# Altium schematic symbol library dungvh03-CERN_Logic.SchLib: 486 symbols (part 12 of 54)
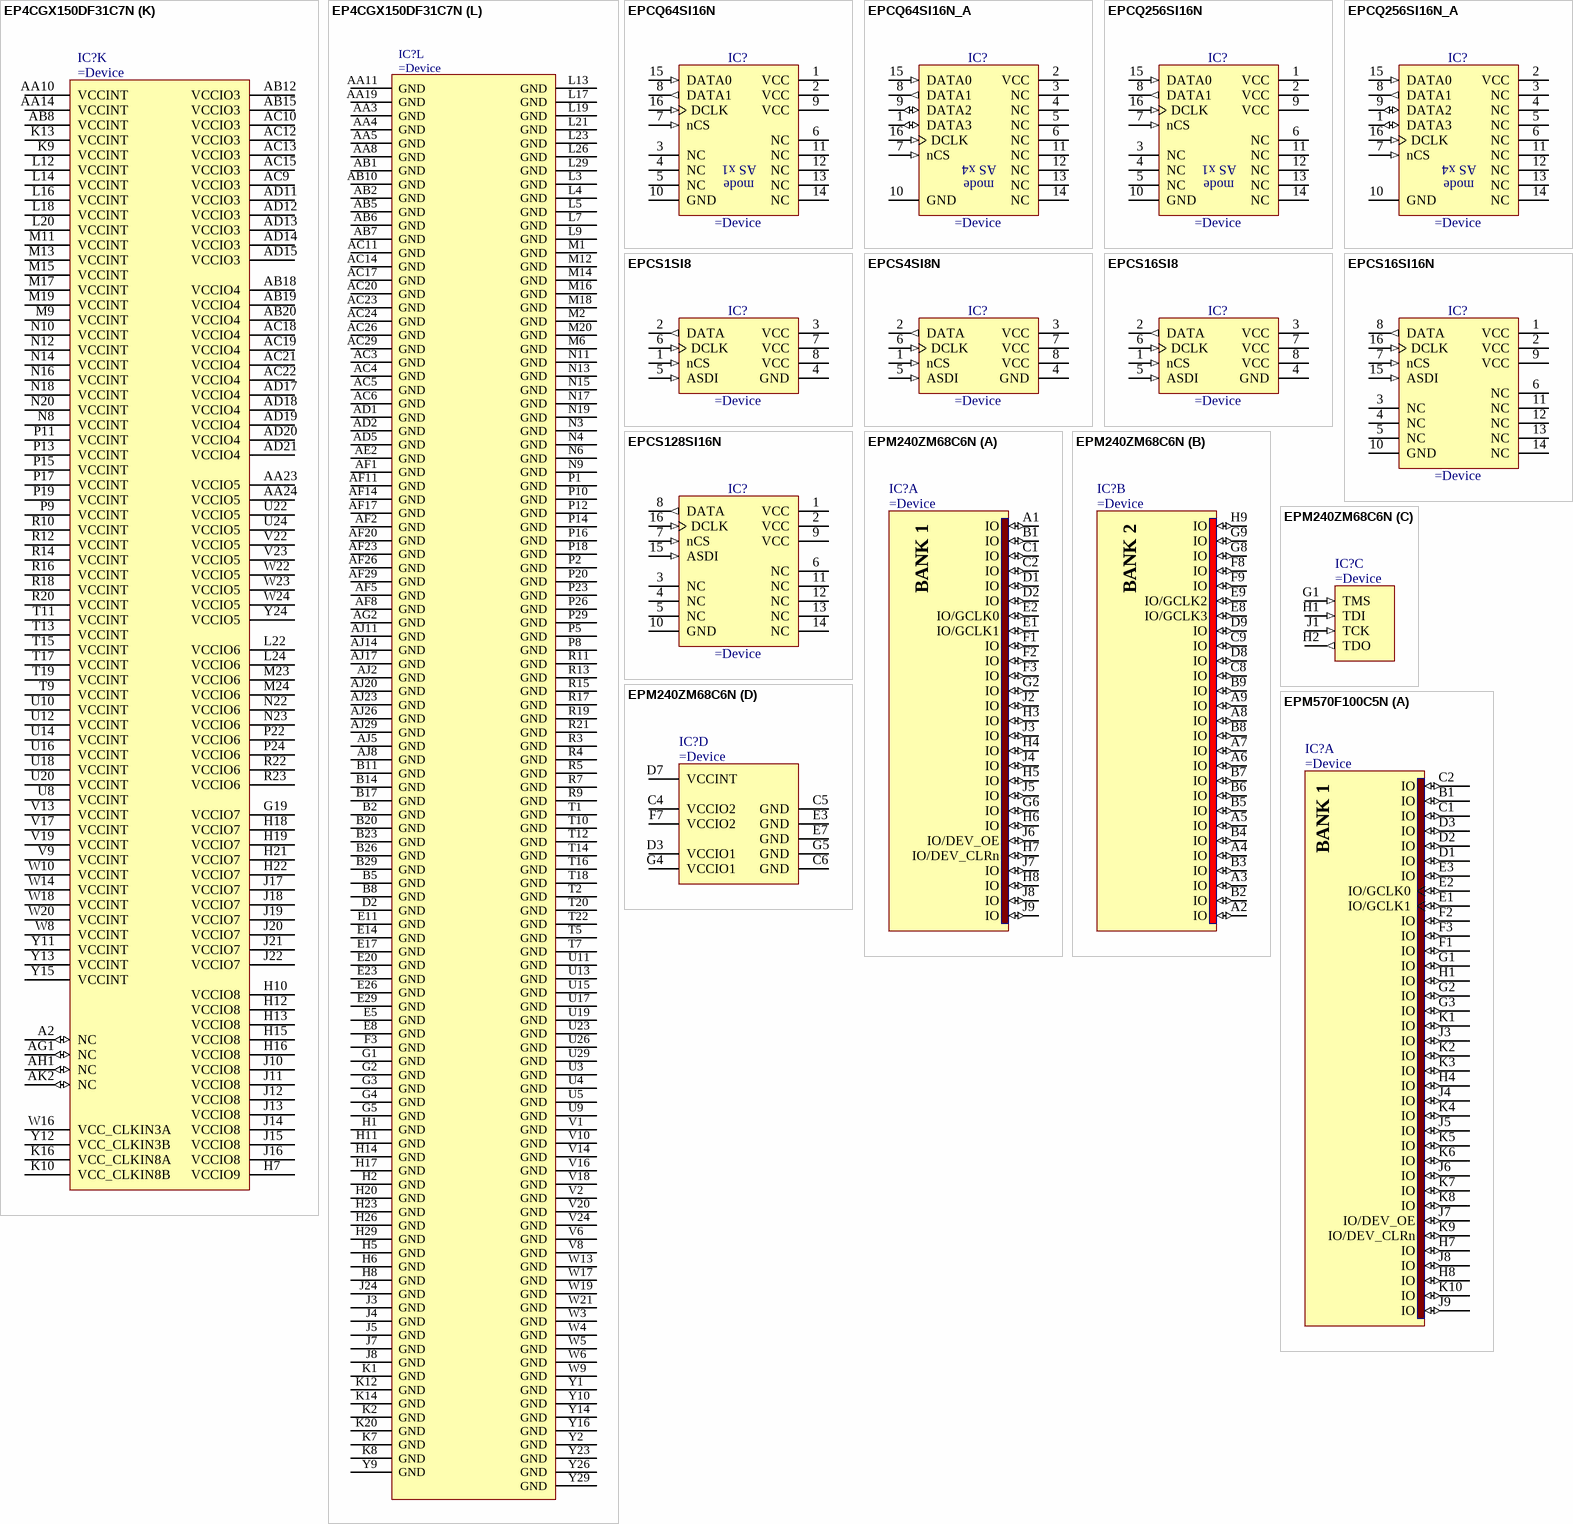
[diagram p272: symbols EP4CGX150DF31C7N to EPM570F100C5N]

## EP4CGX150DF31C7N
designator IC?
Cyclone IV GX Family FPGA, 475 I/O Pins, 8 Transceiver, 896-Pin FBGA, Speed Grade 7, Commercial Grade, Pb-Free
part A pins: AA12 IO/DIFFIO_B20P (io), AA13 IO/DIFFIO_B23P (io), AA15 IO/DIFFIO_B30P/DQ5B (io), AA16 IO/DIFFIO_B25P (io), AB11 IO/DIFFIO_B20N (io), AB13 IO/DIFFIO_B23N/DM5B/BWS#5B (io), AB14 IO/DIFFIO_B30N (io), AB16 IO/DIFFIO_B25N/DQ5B (io), AD6 IO/DIFFIO_B1P/CRC_ERROR (io), AD9 IO/DIFFIO_B7P/DQS1B/CQ1B#,DPCLK0 (io), AD10 IO/DIFFIO_B7N (io), AE3 IO/DIFFIO_B5P/DM1B (io), AE4 IO/DIFFIO_B2P/DATA5 (io), AE5 IO/DIFFIO_B2N/DATA6 (io), AE6 IO/PLL1_CLKOUTP (io), AE7 IO/DIFFIO_B1N/NCEO (io), AE9 IO/PLL6_CLKOUTP (io), AE10 IO/DIFFIO_B3P/DATA7 (io), AE12 IO/DIFFIO_B14P/DQ3B (io), AE13 IO/DIFFIO_B16P/DQ3B (io), AE14 IO/DIFFIO_B31P/DQ5B (io), AE15 IO/DIFFIO_B31N (io), AF3 IO/DIFFIO_B5N/DQ1B (io), AF4 IO/DIFFIO_B4P (io), AF6 IO/PLL1_CLKOUTN (io), AF7 IO/PLL5_CLKOUTP (io), AF9 IO/PLL6_CLKOUTN (io), AF10 IO/DIFFIO_B3N (io), AF12 IO/DIFFIO_B14N (io), AF13 IO/DIFFIO_B16N (io), AF15 IO/DIFFIO_B32P/DQS5B/CQ5B#,DPCLK2 (io), AG3 IO/DIFFIO_B6P (io), AG4 IO/DIFFIO_B4N (io), AG5 IO/DIFFIO_B10P/DQ1B (io), AG6 IO/PLL5_CLKOUTN (io), AG7 IO/DIFFIO_B24P (io), AG8 IO/DIFFIO_B22P (io), AG9 IO/DIFFIO_B15P/DQ3B (io), AG10 IO/DIFFIO_B17P/DQ3B (io), AG12 IO/DIFFIO_B19P (io), AG13 IO/DIFFIO_B21P/DQ3B (io), AG14 IO/DIFFIO_B26P (io), AG15 IO/DIFFIO_B32N (io), AH2 IO/DIFFIO_B8P/DQ1B (io), AH3 IO/DIFFIO_B6N (io), AH4 IO/DIFFIO_B9P (io), AH5 IO/DIFFIO_B10N (io), AH6 IO/DIFFIO_B12P/DQ1B (io), AH7 IO/DIFFIO_B24N (io), AH8 IO/DIFFIO_B22N/DQ3B (io), AH9 IO/DIFFIO_B15N (io), AH10 IO/DIFFIO_B17N (io), AH11 IO/DIFFIO_B18P/DQ3B (io), AH12 IO/DIFFIO_B19N/DQ3B (io), AH13 IO/DIFFIO_B21N/DQS3B/CQ3B#,DPCLK1 (io), AH14 IO/DIFFIO_B26N (io), AH15 IO/DIFFIO_B35P/DQ5B (io), AH16 IO/DIFFIO_B35N/DQ5B (io), AJ3 IO/DIFFIO_B8N/DQ1B (io), AJ4 IO/DIFFIO_B9N/DQ1B (io), AJ6 IO/DIFFIO_B12N/DM3B/BWS#3B (io), AJ7 IO/DIFFIO_B27P/DQ5B (io), AJ9 IO/DIFFIO_B28P (io), AJ10 IO/DIFFIO_B18N/DQ3B (io), AJ12 IO/DIFFIO_B34P (io), AJ13 IO/DIFFIO_B36P (io), AK3 IO/DIFFIO_B11P (io), AK4 IO/DIFFIO_B11N/DQ1B (io), AK5 IO/DIFFIO_B13P/DQ1B (io), AK6 IO/DIFFIO_B13N (io), AK7 IO/DIFFIO_B27N (io), AK8 IO/DIFFIO_B28N/DQ5B (io), AK9 IO/DIFFIO_B29P (io), AK10 IO/DIFFIO_B29N (io), AK11 IO/DIFFIO_B33P/DQ5B (io), AK12 IO/DIFFIO_B33N (io), AK13 IO/DIFFIO_B34N (io), AK14 IO/DIFFIO_B36N/DQ5B (io)
part B pins: AA17 IO/DIFFIO_B37N/DQS4B/CQ5B,DPCLK3 (io), AA18 IO/DIFFIO_B49N (io), AA20 IO/DIFFIO_B54N/DQ2B (io), AA21 IO/DIFFIO_B69P/DQ0B (io), AB22 IO/DIFFIO_B69N/DQS0B/CQ1B,DPCLK5 (io), AD16 IO/DIFFIO_B40P (io), AD22 IO/DIFFIO_B58P/DQS2B/CQ3B,DPCLK4 (io), AD23 IO/DIFFIO_B71P (io), AD24 IO/RUP2/DQ0B (io), AE16 IO/DIFFIO_B40N (io), AE17 IO/DIFFIO_B41P (io), AE18 IO/DIFFIO_B46P/DQ4B (io), AE19 IO/DIFFIO_B46N/DM2B (io), AE20 IO/DIFFIO_B55P (io), AE21 IO/DIFFIO_B55N/DQ2B (io), AE22 IO/DIFFIO_B58N (io), AE23 IO/DIFFIO_B71N (io), AE24 IO/RDN2/DQ0B (io), AF16 IO/DIFFIO_B38P (io), AF18 IO/DIFFIO_B41N (io), AF19 IO/DIFFIO_B48P (io), AF21 IO/DIFFIO_B57P (io), AF22 IO/DIFFIO_B57N (io), AF24 IO/PLL3_CLKOUTP (io), AF25 IO/PLL3_CLKOUTN (io), AG16 IO/DIFFIO_B38N (io), AG17 IO/DIFFIO_B44P (io), AG18 IO/DIFFIO_B47P (io), AG19 IO/DIFFIO_B48N (io), AG20 IO/DIFFIO_B52P (io), AG22 IO/DIFFIO_B56P (io), AG23 IO/DIFFIO_B61P/DQ2B (io), AG24 IO/DIFFIO_B65P (io), AG25 IO/DQ0B (io), AG26 IO/DIFFIO_B68P (io), AG27 IO/DIFFIO_B70P (io), AG28 IO/DIFFIO_B72P/DQ0B (io), AH17 IO/DIFFIO_B44N (io), AH18 IO/DIFFIO_B43P/DQ4B (io), AH19 IO/DIFFIO_B47N/DQ4B (io), AH20 IO/DIFFIO_B52N (io), AH21 IO/DIFFIO_B53P (io), AH22 IO/DIFFIO_B56N (io), AH23 IO/DIFFIO_B61N (io), AH24 IO/DIFFIO_B65N (io), AH25 IO/DIFFIO_B63P/DQ2B (io), AH26 IO/DIFFIO_B68N (io), AH27 IO/DIFFIO_B70N/DQ0B (io), AH28 IO/DIFFIO_B72N (io), AJ15 IO/DIFFIO_B39P/DQ4B (io), AJ18 IO/DIFFIO_B43N/DQ4B (io), AJ19 IO/DIFFIO_B45P (io), AJ21 IO/DIFFIO_B53N (io), AJ22 IO/DIFFIO_B51P (io), AJ24 IO/DIFFIO_B60P/DQ2B (io), AJ25 IO/DIFFIO_B63N (io), AJ27 IO/DIFFIO_B64P/DM0B (io), AJ28 IO/DIFFIO_B66P (io), AK15 IO/DIFFIO_B39N/DQ4B (io), AK17 IO/DIFFIO_B42P/DQ4B (io), AK18 IO/DIFFIO_B42N/DQ4B (io), AK19 IO/DIFFIO_B45N (io), AK20 IO/DIFFIO_B50P (io), AK21 IO/DIFFIO_B50N (io), AK22 IO/DIFFIO_B51N (io), AK23 IO/DIFFIO_B59P/DQ2B (io), AK24 IO/DIFFIO_B59N (io), AK25 IO/DIFFIO_B60N (io), AK26 IO/DIFFIO_B62P/DQ2B (io), AK27 IO/DIFFIO_B62N (io), AK28 IO/DIFFIO_B64N (io), AK29 IO/DIFFIO_B66N (io), Y17 IO/DIFFIO_B37P/DM4B (io), Y18 IO/DIFFIO_B49P (io), Y19 IO/DIFFIO_B54P/DQ2B (io), Y20 IO/DIFFIO_B67P/DQ0B (io), Y21 IO/DIFFIO_B67N/DQ0B (io)
part C pins: AA22 IO/DIFFIO_R50P/DQS3R/CQ3R#,DPCLK7 (io), AA25 IO/DIFFIO_R60N/DQ5R (io), AA27 IO/DIFFIO_R56P/DQ5R (io), AA28 IO/DIFFIO_R45P (io), AA29 IO/DIFFIO_R44N/DM1R (io), AA30 IO/DIFFIO_R43P (io), AB25 IO/DIFFIO_R60P/DQ5R (io), AB26 IO/DIFFIO_R61N/DM5R/BWS#5R (io), AB27 IO/DIFFIO_R48P (io), AB28 IO/DIFFIO_R48N/DQ3R (io), AB29 IO/DIFFIO_R44P (io), AB30 IO/DIFFIO_R46N/DQ3R (io), AC25 IO/DIFFIO_R61P/DQS5R/CQ5R#,DPCLK6 (io), AC27 IO/DIFFIO_R49P (io), AC28 IO/DIFFIO_R49N/DQ3R (io), AC30 IO/DIFFIO_R46P (io), AD25 IO/RUP3 (io), AD26 IO/RDN3 (io), AD27 IO/DIFFIO_R51P/DQ3R (io), AD28 IO/DIFFIO_R51N (io), AD29 IO/DIFFIO_R47P (io), AD30 IO/DIFFIO_R47N/DQ3R (io), AE25 IO/DIFFIO_R59P (io), AE26 IO/DIFFIO_R59N/DQ5R (io), AE27 IO/DIFFIO_R53P/DQ3R (io), AE28 IO/DIFFIO_R53N/DQ3R (io), AE29 IO/DIFFIO_R52P/DQ3R (io), AE30 IO/DIFFIO_R52N (io), AF27 IO/DIFFIO_R55P/DEV_CLRN (io), AF28 IO/DIFFIO_R55N/DEV_OE (io), AF30 IO/DIFFIO_R54N/DQ5R (io), AG29 IO/DIFFIO_R57N/DQ5R (io), AG30 IO/DIFFIO_R54P/DM3R/BWS#3R (io), AH29 IO/DIFFIO_R57P/DQ5R (io), AH30 IO/DIFFIO_R58N (io), AJ30 IO/DIFFIO_R58P (io), T21 IO/DIFFIO_R42N/DQ1R (io), T23 IO/DIFFIO_R34P/DQ1R (io), T24 IO/DIFFIO_R34N/DQ1R (io), T25 IO/DIFFIO_R40N (io), T26 IO/DIFFIO_R33P (io), T27 IO/DIFFIO_R33N (io), U21 IO/DIFFIO_R42P (io), U25 IO/DIFFIO_R40P/DQ1R (io), U27 IO/DIFFIO_R35P (io), U28 IO/DIFFIO_R35N (io), V25 IO/DIFFIO_R41P (io), V26 IO/DIFFIO_R41N (io), V27 IO/DIFFIO_R36P/DQ1R (io), V28 IO/DIFFIO_R36N/DQ1R (io), W25 IO/DIFFIO_R39P/DQ1R (io), W26 IO/DIFFIO_R39N (io), W27 IO/DIFFIO_R38P/DQS1R/CQ1R#,DPCLK8 (io), W28 IO/DIFFIO_R38N (io), W29 IO/DIFFIO_R37P (io), W30 IO/DIFFIO_R37N (io), Y22 IO/DIFFIO_R50N/DQ3R (io), Y25 IO/DQ5R (io), Y27 IO/DIFFIO_R56N/DQ5R (io), Y28 IO/DIFFIO_R45N (io), Y30 IO/DIFFIO_R43N/DQ1R (io)
part D pins: C29 IO/DIFFIO_R7P/DQ4R (io), C30 IO/DIFFIO_R7N/DM4R (io), D29 IO/DIFFIO_R9P/DQ2R (io), D30 IO/DIFFIO_R9N (io), E27 IO/DIFFIO_R3P/DQ4R (io), E28 IO/DIFFIO_R3N/DQ4R (io), E30 IO/DIFFIO_R13N/DQ2R (io), F26 IO/DIFFIO_R1P/DQ4R (io), F27 IO/DIFFIO_R1N/DQ4R (io), F28 IO/DIFFIO_R4P (io), F29 IO/DIFFIO_R4N (io), F30 IO/DIFFIO_R13P/DQ2R (io), G26 IO/DIFFIO_R2P/DQS4R/CQ5R,DPCLK11 (io), G27 IO/DIFFIO_R2N (io), G28 IO/DIFFIO_R12P (io), G29 IO/DIFFIO_R12N (io), G30 IO/DIFFIO_R19N (io), H25 IO/DIFFIO_R6N/DQ4R (io), H27 IO/DIFFIO_R5N/DQ4R (io), H28 IO/DIFFIO_R8N (io), H30 IO/DIFFIO_R19P/DQ2R (io), J25 IO/DIFFIO_R6P (io), J26 IO/DIFFIO_R10N/DQS2R/CQ3R,DPCLK10 (io), J27 IO/DIFFIO_R5P/DQ4R (io), J28 IO/DIFFIO_R8P (io), J29 IO/DIFFIO_R18P (io), J30 IO/DIFFIO_R18N (io), K25 IO/DIFFIO_R10P/DQ2R (io), K26 IO/DIFFIO_R11P/DQ2R (io), K27 IO/DIFFIO_R11N/DQ2R (io), K28 IO/DIFFIO_R17P (io), K29 IO/DIFFIO_R17N (io), K30 IO/DIFFIO_R20N (io), L27 IO/DIFFIO_R15P/DQ2R (io), L28 IO/DIFFIO_R15N (io), L30 IO/DIFFIO_R20P (io), M21 IO/DIFFIO_R14P (io), M22 IO/DIFFIO_R14N (io), M25 IO/DIFFIO_R22N (io), M26 IO/DIFFIO_R24N (io), M27 IO/DIFFIO_R21P (io), M28 IO/DIFFIO_R21N/DQ0R (io), M29 IO/DIFFIO_R23P/DQ0R (io), M30 IO/DIFFIO_R23N (io), N21 IO/DIFFIO_R16N (io), N24 IO/DIFFIO_R22P (io), N25 IO/DIFFIO_R24P/DQ0R (io), N27 IO/DIFFIO_R25P/DQ0R (io), N28 IO/DIFFIO_R25N (io), N29 IO/DIFFIO_R27P (io), N30 IO/DIFFIO_R27N (io), P21 IO/DIFFIO_R16P/DM2R (io), P25 IO/DIFFIO_R26N (io), P27 IO/DIFFIO_R28P (io), P28 IO/DIFFIO_R28N (io), P30 IO/DIFFIO_R29N/DQS0R/CQ1R,DPCLK9 (io), R24 IO/DIFFIO_R26P/DQ0R (io), R25 IO/DIFFIO_R31P (io), R26 IO/DIFFIO_R31N (io), R27 IO/DIFFIO_R30P/DQ0R (io), R28 IO/DIFFIO_R30N/DQ0R (io), R29 IO/DIFFIO_R32N/DM0R (io), R30 IO/DIFFIO_R29P (io), T28 IO/DIFFIO_R32P/DQ0R (io)
part E pins: A16 IO/DIFFIO_T36N (io), A17 IO/DIFFIO_T39N/DQ4T (io), A18 IO/DIFFIO_T39P (io), A19 IO/DIFFIO_T42N (io), A20 IO/DIFFIO_T44N (io), A21 IO/DIFFIO_T48N (io), A22 IO/DIFFIO_T51N (io), A23 IO/DIFFIO_T51P/DQ4T (io), A24 IO/DIFFIO_T54N/DM2T (io), A25 IO/DIFFIO_T59N (io), A26 IO/DIFFIO_T59P/DQ2T (io), A27 IO/DIFFIO_T62N (io), A28 IO/DIFFIO_T63N (io), A29 IO/DIFFIO_T65N/DQS0T/CQ1T,DPCLK12 (io), B16 IO/DIFFIO_T36P/DM4T (io), B18 IO/DIFFIO_T42P (io), B19 IO/DIFFIO_T44P (io), B21 IO/DIFFIO_T48P (io), B22 IO/DIFFIO_T49N (io), B24 IO/DIFFIO_T53N (io), B25 IO/DIFFIO_T54P (io), B27 IO/DIFFIO_T62P/DQ2T (io), B28 IO/DIFFIO_T63P/DQ2T (io), B30 IO/DIFFIO_T65P/DQ0T (io), C17 IO/DIFFIO_T38N (io), C18 IO/DIFFIO_T41N/DQ4T (io), C19 IO/DIFFIO_T43N (io), C20 IO/DIFFIO_T46N (io), C22 IO/DIFFIO_T49P/DQ4T (io), C23 IO/DIFFIO_T52N (io), C24 IO/DIFFIO_T53P (io), C25 IO/DIFFIO_T58N (io), C26 IO/DIFFIO_T60N (io), C27 IO/PLL4_CLKOUTN (io), C28 IO/DIFFIO_T69N/DQ0T (io), D17 IO/DIFFIO_T38P (io), D18 IO/DIFFIO_T41P (io), D19 IO/DIFFIO_T43P/DQ4T (io), D20 IO/DIFFIO_T46P (io), D21 IO/DIFFIO_T56N/DQ2T (io), D22 IO/DIFFIO_T57N/DQ2T (io), D23 IO/DIFFIO_T52P (io), D24 IO/DIFFIO_T61N (io), D25 IO/DIFFIO_T58P (io), D26 IO/DIFFIO_T60P/DQ2T (io), D27 IO/PLL4_CLKOUTP (io), D28 IO/DIFFIO_T69P/DQ0T (io), E18 IO/DIFFIO_T45N/DQ4T (io), E19 IO/DIFFIO_T45P/DQ4T (io), E21 IO/DIFFIO_T56P (io), E22 IO/DIFFIO_T57P (io), E24 IO/DIFFIO_T61P/DQ2T (io), E25 IO (io), F17 IO/DIFFIO_T47N (io), F18 IO/DIFFIO_T40N (io), F19 IO/DIFFIO_T55N/DQ2T (io), F20 IO/DIFFIO_T50N (io), F21 IO/DIFFIO_T50P (io), F22 IO/DIFFIO_T64N/DQ0T (io), F23 IO/DIFFIO_T66N/DQ0T (io), F24 IO (io), F25 IO/RDN4 (io), G17 IO/DIFFIO_T47P/DQS2T/CQ3T,DPCLK13 (io), G18 IO/DIFFIO_T40P (io), G20 IO/DIFFIO_T55P (io), G22 IO/DIFFIO_T64P/DM0T (io), G23 IO/DIFFIO_T66P/DQ0T (io), G24 IO/DIFFIO_T68N/DQ0T (io), G25 IO/RUP4 (io), H24 IO/DIFFIO_T68P/DQ0T (io), K17 IO (io), K18 IO/DIFFIO_T37N/DQ4T (io), K19 IO/DIFFIO_T37P/DQS4T/CQ5T,DPCLK14 (io), K21 IO/DIFFIO_T67P (io), K22 IO/DIFFIO_T67N (io)
part F pins: A5 IO/DIFFIO_T16N/DM3T/BWS#3T (io), A6 IO/DIFFIO_T16P (io), A7 IO/DIFFIO_T18N (io), A8 IO/DIFFIO_T20N/DM5T (io), A9 IO/DIFFIO_T19N (io), A10 IO/DIFFIO_T27N (io), A11 IO/DIFFIO_T27P (io), A12 IO/DIFFIO_T29N/DQ5T (io), A13 IO/DIFFIO_T32N/DQ5T (io), A14 IO/DIFFIO_T32P/DQ5T (io), B6 IO/DIFFIO_T18P/DQ3T (io), B7 IO/DIFFIO_T20P (io), B9 IO/DIFFIO_T19P/DQ3T (io), B10 IO/DIFFIO_T23N (io), B12 IO/DIFFIO_T29P (io), C2 IO/DIFFIO_T4N/DATA4/DM1T/BWS#1T (io), C3 IO/DIFFIO_T8N/DQ1T (io), C4 IO/DIFFIO_T13N (io), C5 IO/DIFFIO_T12N/DQ3T (io), C6 IO/DIFFIO_T12P (io), C7 IO/DIFFIO_T11N/DQ3T (io), C9 IO/DIFFIO_T6N/DQ1T (io), C10 IO/DIFFIO_T23P (io), C11 IO/DIFFIO_T17N (io), C12 IO/DIFFIO_T21N (io), C13 IO/DIFFIO_T25N (io), C14 IO/DIFFIO_T26N/DQ5T (io), C15 IO/DIFFIO_T28N (io), C16 IO/DIFFIO_T34N/DQS5T/CQ5T#,DPCLK15 (io), D1 IO/DIFFIO_T4P/DATA3 (io), D3 IO/DIFFIO_T8P/DQ1T (io), D4 IO/DIFFIO_T13P/DQ3T (io), D5 IO/DIFFIO_T10N/DQ3T (io), D6 IO/DIFFIO_T11P/DQ3T (io), D7 IO/DIFFIO_T15N/DQS3T/CQ3T#,DPCLK16 (io), D8 IO (io), D9 IO/DIFFIO_T6P/DQ1T (io), D10 IO/DIFFIO_T7N/DQ1T (io), D11 IO/DIFFIO_T17P/DQ3T (io), D12 IO/DIFFIO_T21P (io), D13 IO/DIFFIO_T25P (io), D14 IO/DIFFIO_T26P (io), D15 IO/DIFFIO_T28P/DQ5T (io), D16 IO/DIFFIO_T34P/DQ5T (io), E3 IO/DIFFIO_T3N (io), E4 IO/DIFFIO_T3P (io), E6 IO/DIFFIO_T10P/DQ1T (io), E7 IO/DIFFIO_T15P (io), E9 IO/DIFFIO_T5N (io), E10 IO/DIFFIO_T7P/DQ1T (io), E12 IO/DIFFIO_T14N (io), E13 IO/DIFFIO_T24N (io), E15 IO/DIFFIO_T30N (io), E16 IO/DIFFIO_T31N (io), F4 IO/DIFFIO_T2N (io), F5 IO/DIFFIO_T2P (io), F6 IO/PLL2_CLKOUTN (io), F7 IO/PLL7_CLKOUTN (io), F8 IO/PLL8_CLKOUTN (io), F9 IO/DIFFIO_T5P/DQ1T (io), F10 IO/DIFFIO_T9N/DQ1T (io), F11 IO/DIFFIO_T14P/DQ3T (io), F12 IO/DIFFIO_T22N/DQ5T (io), F13 IO/DIFFIO_T24P/DQ5T (io), F14 IO/DIFFIO_T30P (io), F15 IO/DIFFIO_T31P (io), F16 IO/DIFFIO_T35N (io), G6 IO/PLL2_CLKOUTP (io), G7 IO/PLL7_CLKOUTP (io), G8 IO/PLL8_CLKOUTP (io), G10 IO/DIFFIO_T9P/DQS1T/CQ1T#,DPCLK17 (io), G12 IO/DIFFIO_T22P (io), G13 IO/DIFFIO_T33N (io), G14 IO/DIFFIO_T33P (io), G15 IO/DIFFIO_T35P (io), H9 IO/DIFFIO_T1N/DATA2 (io), J9 IO/DIFFIO_T1P (io)
part G pins: A15 CLKIO8/DIFFCLK_5N (io), AA1 GXB_RX1N (io), AA2 GXB_RX1P (io), AB3 GXB_TX0N (io), AB4 GXB_TX0P (io), AC1 GXB_RX0N (io), AC2 GXB_RX0P (io), AE1 RREF0 (io), AJ16 CLKIO14/DIFFCLK_6P (io), AK16 CLKIO15/DIFFCLK_6N (io), B15 CLKIO9/DIFFCLK_5P (io), H3 GXB_TX7N (io), H4 GXB_TX7P (io), J1 GXB_RX7N (io), J2 GXB_RX7P (io), K3 GXB_TX6N (io), K4 GXB_TX6P (io), K11 REFCLK4N/DIFFCLK_8N (io), K15 CLKIO10/DIFFCLK_4N,REFCLK3N (io), L1 GXB_RX6N (io), L2 GXB_RX6P (io), L10 REFCLK5N/DIFFCLK_9N (io), L11 REFCLK4P/DIFFCLK_8P,CLKIO17 (io), L15 CLKIO11/DIFFCLK_4P,REFCLK3P (io), M3 GXB_TX5N (io), M4 GXB_TX5P (io), M10 REFCLK5P/DIFFCLK_9P,CLKIO19 (io), N1 GXB_RX5N (io), N2 GXB_RX5P (io), P3 GXB_TX4N (io), P4 GXB_TX4P (io), R1 GXB_RX4N (io), R2 GXB_RX4P (io), T3 GXB_TX3N (io), T4 GXB_TX3P (io), T29 CLKIO7/DIFFCLK_3P (io), T30 CLKIO6/DIFFCLK_3N (io), U1 GXB_RX3N (io), U2 GXB_RX3P (io), V3 GXB_TX2N (io), V4 GXB_TX2P (io), V11 REFCLK0P/DIFFCLK_0P,CLKIO20 (io), V12 REFCLK1P/DIFFCLK_1P,CLKIO22 (io), V15 CLKIO12/DIFFCLK_7P,REFCLK2P (io), V29 CLKIO5/DIFFCLK_2P (io), V30 CLKIO4/DIFFCLK_2N (io), W1 GXB_RX2N (io), W2 GXB_RX2P (io), W11 REFCLK0N/DIFFCLK_0N (io), W12 REFCLK1N/DIFFCLK_1N (io), W15 CLKIO13/DIFFCLK_7N,REFCLK2N (io), Y3 GXB_TX1N (io), Y4 GXB_TX1P (io)
part H pins: AA26 VREFB5N2 (io), AB17 VREFB4N2 (io), AB21 VREFB4N0 (io), AC16 VREFB3N0 (io), AE11 VREFB3N2 (io), AG11 VREFB3N1 (io), AG21 VREFB4N1 (io), B13 VREFB8N0 (io), C8 VREFB8N2 (io), C21 VREFB7N1 (io), G11 VREFB8N1 (io), G16 VREFB7N2 (io), G21 VREFB7N0 (io), K24 VREFB6N0 (io), L25 VREFB6N1 (io), N26 VREFB6N2 (io), U30 VREFB5N0 (io), V21 VREFB5N1 (io)
part I pins: A3 DATA0 (io), A4 CLKUSR (io), AB9 CONF_DONE (io), AC7 MSEL2 (io), AC8 MSEL3 (io), AD7 MSEL0 (io), AD8 MSEL1 (io), AE8 INIT_DONE (io), AJ1 nSTATUS (io), B1 nCONFIG (io), B3 DCLK (io), B4 nCSO (io), C1 nCE (io), E1 TMS (io), E2 TDI (io), F1 TDO (io), F2 TCK (io), G9 DATA1,ASDO (io)
part J pins: AA6 VCCL_GXB (power), AA7 VCCA (power), AA9 VCCA (power), AB23 VCCD_PLL (power), AB24 VCCA (power), AD3 VCCA_GXB (power), AD4 VCCL_GXB (power), J6 VCCA (power), J23 VCCD_PLL (power), K5 VCCL_GXB (power), K6 VCCD_PLL (power), K23 VCCA (power), L6 VCCH_GXB (power), L8 VCCA (power), M5 VCCL_GXB (power), M7 VCCA_GXB (power), M8 VCCD_PLL (power), N5 VCCH_GXB (power), N7 VCCL_GXB (power), P6 VCCL_GXB (power), P7 VCCD_PLL (power), R6 VCCA_GXB (power), R8 VCCA (power), T6 VCCL_GXB (power), T8 VCCA (power), U6 VCCH_GXB (power), U7 VCCD_PLL (power), V5 VCCL_GXB (power), V7 VCCA_GXB (power), W7 VCCH_GXB (power), Y5 VCCL_GXB (power), Y6 VCCA_GXB (power), Y7 VCCD_PLL (power), Y8 VCCD_PLL (power)
part K pins: A2 NC (io), AA10 VCCINT (power), AA14 VCCINT (power), AA23 VCCIO5 (power), AA24 VCCIO5 (power), AB8 VCCINT (power), AB12 VCCIO3 (power), AB15 VCCIO3 (power), AB18 VCCIO4 (power), AB19 VCCIO4 (power), AB20 VCCIO4 (power), AC9 VCCIO3 (power), AC10 VCCIO3 (power), AC12 VCCIO3 (power), AC13 VCCIO3 (power), AC15 VCCIO3 (power), AC18 VCCIO4 (power), AC19 VCCIO4 (power), AC21 VCCIO4 (power), AC22 VCCIO4 (power), AD11 VCCIO3 (power), AD12 VCCIO3 (power), AD13 VCCIO3 (power), AD14 VCCIO3 (power), AD15 VCCIO3 (power), AD17 VCCIO4 (power), AD18 VCCIO4 (power), AD19 VCCIO4 (power), AD20 VCCIO4 (power), AD21 VCCIO4 (power), AG1 NC (io), AH1 NC (io), AK2 NC (io), G19 VCCIO7 (power), H7 VCCIO9 (power), H10 VCCIO8 (power), H12 VCCIO8 (power), H13 VCCIO8 (power), H15 VCCIO8 (power), H16 VCCIO8 (power), H18 VCCIO7 (power), H19 VCCIO7 (power), H21 VCCIO7 (power), H22 VCCIO7 (power), J10 VCCIO8 (power), J11 VCCIO8 (power), J12 VCCIO8 (power), J13 VCCIO8 (power), J14 VCCIO8 (power), J15 VCCIO8 (power), J16 VCCIO8 (power), J17 VCCIO7 (power), J18 VCCIO7 (power), J19 VCCIO7 (power), J20 VCCIO7 (power), J21 VCCIO7 (power), J22 VCCIO7 (power), K9 VCCINT (power), K10 VCC_CLKIN8B (power), K13 VCCINT (power), K16 VCC_CLKIN8A (power), L12 VCCINT (power), L14 VCCINT (power), L16 VCCINT (power), L18 VCCINT (power), L20 VCCINT (power), L22 VCCIO6 (power), L24 VCCIO6 (power), M9 VCCINT (power), M11 VCCINT (power), M13 VCCINT (power), M15 VCCINT (power), M17 VCCINT (power), M19 VCCINT (power), M23 VCCIO6 (power), M24 VCCIO6 (power), N8 VCCINT (power), N10 VCCINT (power), N12 VCCINT (power), N14 VCCINT (power), N16 VCCINT (power), N18 VCCINT (power), N20 VCCINT (power), N22 VCCIO6 (power), N23 VCCIO6 (power), P9 VCCINT (power), P11 VCCINT (power), P13 VCCINT (power), P15 VCCINT (power), P17 VCCINT (power), P19 VCCINT (power), P22 VCCIO6 (power), P24 VCCIO6 (power), R10 VCCINT (power), R12 VCCINT (power), R14 VCCINT (power), R16 VCCINT (power), R18 VCCINT (power), R20 VCCINT (power), R22 VCCIO6 (power), R23 VCCIO6 (power), T9 VCCINT (power), T11 VCCINT (power), T13 VCCINT (power), T15 VCCINT (power), T17 VCCINT (power), T19 VCCINT (power), U8 VCCINT (power), U10 VCCINT (power), U12 VCCINT (power), U14 VCCINT (power), U16 VCCINT (power), U18 VCCINT (power), U20 VCCINT (power), U22 VCCIO5 (power), U24 VCCIO5 (power), V9 VCCINT (power), V13 VCCINT (power), V17 VCCINT (power), V19 VCCINT (power), V22 VCCIO5 (power), V23 VCCIO5 (power), W8 VCCINT (power), W10 VCCINT (power), W14 VCCINT (power), W16 VCC_CLKIN3A (power), W18 VCCINT (power), W20 VCCINT (power), W22 VCCIO5 (power), W23 VCCIO5 (power), W24 VCCIO5 (power), Y11 VCCINT (power), Y12 VCC_CLKIN3B (power), Y13 VCCINT (power), Y15 VCCINT (power), Y24 VCCIO5 (power)
part L pins: AA3 GND (power), AA4 GND (power), AA5 GND (power), AA8 GND (power), AA11 GND (power), AA19 GND (power), AB1 GND (power), AB2 GND (power), AB5 GND (power), AB6 GND (power), AB7 GND (power), AB10 GND (power), AC3 GND (power), AC4 GND (power), AC5 GND (power), AC6 GND (power), AC11 GND (power), AC14 GND (power), AC17 GND (power), AC20 GND (power), AC23 GND (power), AC24 GND (power), AC26 GND (power), AC29 GND (power), AD1 GND (power), AD2 GND (power), AD5 GND (power), AE2 GND (power), AF1 GND (power), AF2 GND (power), AF5 GND (power), AF8 GND (power), AF11 GND (power), AF14 GND (power), AF17 GND (power), AF20 GND (power), AF23 GND (power), AF26 GND (power), AF29 GND (power), AG2 GND (power), AJ2 GND (power), AJ5 GND (power), AJ8 GND (power), AJ11 GND (power), AJ14 GND (power), AJ17 GND (power), AJ20 GND (power), AJ23 GND (power), AJ26 GND (power), AJ29 GND (power), B2 GND (power), B5 GND (power), B8 GND (power), B11 GND (power), B14 GND (power), B17 GND (power), B20 GND (power), B23 GND (power), B26 GND (power), B29 GND (power), D2 GND (power), E5 GND (power), E8 GND (power), E11 GND (power), E14 GND (power), E17 GND (power), E20 GND (power), E23 GND (power), E26 GND (power), E29 GND (power), F3 GND (power), G1 GND (power), G2 GND (power), G3 GND (power), G4 GND (power), G5 GND (power), H1 GND (power), H2 GND (power), H5 GND (power), H6 GND (power), H8 GND (power), H11 GND (power), H14 GND (power), H17 GND (power), H20 GND (power), H23 GND (power), H26 GND (power), H29 GND (power), J3 GND (power), J4 GND (power), J5 GND (power), J7 GND (power), J8 GND (power), J24 GND (power), K1 GND (power), K2 GND (power), K7 GND (power), K8 GND (power), K12 GND (power), K14 GND (power), K20 GND (power), L3 GND (power), L4 GND (power), L5 GND (power), L7 GND (power), L9 GND (power), L13 GND (power), L17 GND (power), L19 GND (power), L21 GND (power), L23 GND (power), L26 GND (power), L29 GND (power), M1 GND (power), M2 GND (power), M6 GND (power), M12 GND (power), M14 GND (power), M16 GND (power), M18 GND (power), M20 GND (power), N3 GND (power), N4 GND (power), N6 GND (power), N9 GND (power), N11 GND (power), N13 GND (power), N15 GND (power), N17 GND (power), N19 GND (power), P1 GND (power), P2 GND (power), P5 GND (power), P8 GND (power), P10 GND (power), P12 GND (power), P14 GND (power), P16 GND (power), P18 GND (power), P20 GND (power), P23 GND (power), P26 GND (power), P29 GND (power), R3 GND (power), R4 GND (power), R5 GND (power), R7 GND (power), R9 GND (power), R11 GND (power), R13 GND (power), R15 GND (power), R17 GND (power), R19 GND (power), R21 GND (power), T1 GND (power), T2 GND (power), T5 GND (power), T7 GND (power), T10 GND (power), T12 GND (power), T14 GND (power), T16 GND (power), T18 GND (power), T20 GND (power), T22 GND (power), U3 GND (power), U4 GND (power), U5 GND (power), U9 GND (power), U11 GND (power), U13 GND (power), U15 GND (power), U17 GND (power), U19 GND (power), U23 GND (power), U26 GND (power), U29 GND (power), V1 GND (power), V2 GND (power), V6 GND (power), V8 GND (power), V10 GND (power), V14 GND (power), V16 GND (power), V18 GND (power), V20 GND (power), V24 GND (power), W3 GND (power), W4 GND (power), W5 GND (power), W6 GND (power), W9 GND (power), W13 GND (power), W17 GND (power), W19 GND (power), W21 GND (power), Y1 GND (power), Y2 GND (power), Y9 GND (power), Y10 GND (power), Y14 GND (power), Y16 GND (power), Y23 GND (power), Y26 GND (power), Y29 GND (power)
part A text: BANK 3
part B text: BANK 4
part C text: BANK 5
part D text: BANK 6
part E text: BANK 7
part F text: BANK 8

## EPCQ64SI16N
designator IC?
EPCQ Series, In-system programmable 3.3V Serial or Quad-Serial Configuration Device, 16-Pin SOIC, 64-Megabit, Industrial Grade, Pb-Free
pins: 1 VCC (power) "3.3V supply", 2 VCC (power) "3.3V supply", 3 NC "Can be left floating, or connected to VCC or GND", 4 NC "Can be left floating, or connected to VCC or GND", 5 NC "Can be left floating, or connected to VCC or GND", 6 NC "Can be left floating, or connected to VCC or GND", 7 nCS (in) "Active low, chip select input", 8 DATA1 (out) "Serial data out", 9 VCC (power) "3.3V supply", 10 GND (power) "Ground", 11 NC "Can be left floating, or connected to VCC or GND", 12 NC "Can be left floating, or connected to VCC or GND", 13 NC "Can be left floating, or connected to VCC or GND", 14 NC "Can be left floating, or connected to VCC or GND", 15 DATA0 (in) "AS data in", 16 DCLK (in) "Provides timing of the serial interface"
text: AS x1; mode

## EPCQ64SI16N_A
designator IC?
EPCQ Series, In-system programmable 3.3V Serial or Quad-Serial Configuration Device, 16-Pin SOIC, 64-Megabit, Industrial Grade, Pb-Free
pins: 1 DATA3 (io) "3.3V supply", 2 VCC (power) "3.3V supply", 3 NC "Can be left floating, or connected to VCC or GND", 4 NC "Can be left floating, or connected to VCC or GND", 5 NC "Can be left floating, or connected to VCC or GND", 6 NC "Can be left floating, or connected to VCC or GND", 7 nCS (in) "Active low, chip select input", 8 DATA1 (out) "Serial data out", 9 DATA2 (io) "3.3V supply", 10 GND (power) "Ground", 11 NC "Can be left floating, or connected to VCC or GND", 12 NC "Can be left floating, or connected to VCC or GND", 13 NC "Can be left floating, or connected to VCC or GND", 14 NC "Can be left floating, or connected to VCC or GND", 15 DATA0 (in) "AS data in", 16 DCLK (in) "Provides timing of the serial interface"
text: AS x4; mode

## EPCQ256SI16N
designator IC?
EPCQ Series, In-system programmable 3.3V serial configuration device, 16-Pin SOIC, 256-Megabit, Industrial Grade, Pb-Free
pins: 1 VCC (power) "3.3V supply", 2 VCC (power) "3.3V supply", 3 NC "Can be left floating, or connected to VCC or GND", 4 NC "Can be left floating, or connected to VCC or GND", 5 NC "Can be left floating, or connected to VCC or GND", 6 NC "Can be left floating, or connected to VCC or GND", 7 nCS (in) "Active low, chip select input", 8 DATA1 (out) "Serial data out", 9 VCC (power) "3.3V supply", 10 GND (power) "Ground", 11 NC "Can be left floating, or connected to VCC or GND", 12 NC "Can be left floating, or connected to VCC or GND", 13 NC "Can be left floating, or connected to VCC or GND", 14 NC "Can be left floating, or connected to VCC or GND", 15 DATA0 (in) "AS data in", 16 DCLK (in) "Provides timing of the serial interface"
text: AS x1; mode

## EPCQ256SI16N_A
designator IC?
EPCQ Series, In-system programmable 3.3V serial configuration device, 16-Pin SOIC, 256-Megabit, Industrial Grade, Pb-Free
pins: 1 DATA3 (io) "3.3V supply", 2 VCC (power) "3.3V supply", 3 NC "Can be left floating, or connected to VCC or GND", 4 NC "Can be left floating, or connected to VCC or GND", 5 NC "Can be left floating, or connected to VCC or GND", 6 NC "Can be left floating, or connected to VCC or GND", 7 nCS (in) "Active low, chip select input", 8 DATA1 (out) "Serial data out", 9 DATA2 (io) "3.3V supply", 10 GND (power) "Ground", 11 NC "Can be left floating, or connected to VCC or GND", 12 NC "Can be left floating, or connected to VCC or GND", 13 NC "Can be left floating, or connected to VCC or GND", 14 NC "Can be left floating, or connected to VCC or GND", 15 DATA0 (in) "AS data in", 16 DCLK (in) "Provides timing of the serial interface"
text: AS x4; mode

## EPCS1SI8
designator IC?
EPC3V Serial configuration device, 8-Pin SOIC, 1Mx1, Industrial Grade, Pb-Free
pins: 1 nCS (in) "Active low, chip select input", 2 DATA (out) "Serial data out", 3 VCC (power) "3.3V supply", 4 GND (power) "Ground", 5 ASDI (in) "AS data in", 6 DCLK (in) "Provides timing of the serial interface", 7 VCC (power) "3.3V supply", 8 VCC (power) "3.3V supply"

## EPCS4SI8N
designator IC?
EPCS4 Series, In-system programmable 3.3V serial configuration device, 8-Pin SOIC, 4-Megabit, Industrial Grade, Pb-Free
pins: 1 nCS (in) "Active low, chip select input", 2 DATA (out) "Serial data out", 3 VCC (power) "3.3V supply", 4 GND (power) "Ground", 5 ASDI (in) "AS data in", 6 DCLK (in) "Provides timing of the serial interface", 7 VCC (power) "3.3V supply", 8 VCC (power) "3.3V supply"

## EPCS16SI8
designator IC?
EPC3V Serial configuration device, 8-Pin SOIC, 16Mx1, Industrial Grade, Pb-Free
pins: 1 nCS (in) "Active low, chip select input", 2 DATA (out) "Serial data out", 3 VCC (power) "3.3V supply", 4 GND (power) "Ground", 5 ASDI (in) "AS data in", 6 DCLK (in) "Provides timing of the serial interface", 7 VCC (power) "3.3V supply", 8 VCC (power) "3.3V supply"

## EPCS16SI16N
designator IC?
EPCS16 Series, In-system programmable 3.3V serial configuration device, 16-Pin SOIC, 16-Megabit, Industrial Grade, Pb-Free
pins: 1 VCC (power) "3.3V supply", 2 VCC (power) "3.3V supply", 3 NC "Can be left floating, or connected to VCC or GND", 4 NC "Can be left floating, or connected to VCC or GND", 5 NC "Can be left floating, or connected to VCC or GND", 6 NC "Can be left floating, or connected to VCC or GND", 7 nCS (in) "Active low, chip select input", 8 DATA (out) "Serial data out", 9 VCC (power) "3.3V supply", 10 GND (power) "Ground", 11 NC "Can be left floating, or connected to VCC or GND", 12 NC "Can be left floating, or connected to VCC or GND", 13 NC "Can be left floating, or connected to VCC or GND", 14 NC "Can be left floating, or connected to VCC or GND", 15 ASDI (in) "AS data in", 16 DCLK (in) "Provides timing of the serial interface"

## EPCS128SI16N
designator IC?
EPCS Series, In-system programmable 3.3V serial configuration device, 16-Pin SOIC, 128-Megabit, Industrial Grade, Pb-Free
pins: 1 VCC (power) "3.3V supply", 2 VCC (power) "3.3V supply", 3 NC "Can be left floating, or connected to VCC or GND", 4 NC "Can be left floating, or connected to VCC or GND", 5 NC "Can be left floating, or connected to VCC or GND", 6 NC "Can be left floating, or connected to VCC or GND", 7 nCS (in) "Active low, chip select input", 8 DATA (out) "Serial data out", 9 VCC (power) "3.3V supply", 10 GND (power) "Ground", 11 NC "Can be left floating, or connected to VCC or GND", 12 NC "Can be left floating, or connected to VCC or GND", 13 NC "Can be left floating, or connected to VCC or GND", 14 NC "Can be left floating, or connected to VCC or GND", 15 ASDI (in) "AS data in", 16 DCLK (in) "Provides timing of the serial interface"

## EPM240ZM68C6N
designator IC?
MAX II Family, 1.8V, Instant-On, Non-Volatile CPLD, 54 User I/Os, 68-Pin FineLine BGA, Speed Grade 6, Pb-Free
part A pins: A1 IO (io), B1 IO (io), C1 IO (io), C2 IO (io), D1 IO (io), D2 IO (io), E1 IO/GCLK1 (io), E2 IO/GCLK0 (io), F1 IO (io), F2 IO (io), F3 IO (io), G2 IO (io), G6 IO (io), H3 IO (io), H4 IO (io), H5 IO (io), H6 IO (io), H7 IO/DEV_CLRn (io), H8 IO (io), J2 IO (io), J3 IO (io), J4 IO (io), J5 IO (io), J6 IO/DEV_OE (io), J7 IO (io), J8 IO (io), J9 IO (io)
part B pins: A2 IO (io), A3 IO (io), A4 IO (io), A5 IO (io), A6 IO (io), A7 IO (io), A8 IO (io), A9 IO (io), B2 IO (io), B3 IO (io), B4 IO (io), B5 IO (io), B6 IO (io), B7 IO (io), B8 IO (io), B9 IO (io), C8 IO (io), C9 IO (io), D8 IO (io), D9 IO (io), E8 IO/GCLK3 (io), E9 IO/GCLK2 (io), F8 IO (io), F9 IO (io), G8 IO (io), G9 IO (io), H9 IO (io)
part C pins: G1 TMS (in), H1 TDI (in), H2 TDO (out), J1 TCK (in)
part D pins: C4 VCCIO2 (power), C5 GND (power), C6 GND (power), D3 VCCIO1 (power), D7 VCCINT (power), E3 GND (power), E7 GND (power), F7 VCCIO2 (power), G4 VCCIO1 (power), G5 GND (power)
part A text: BANK 1
part B text: BANK 2

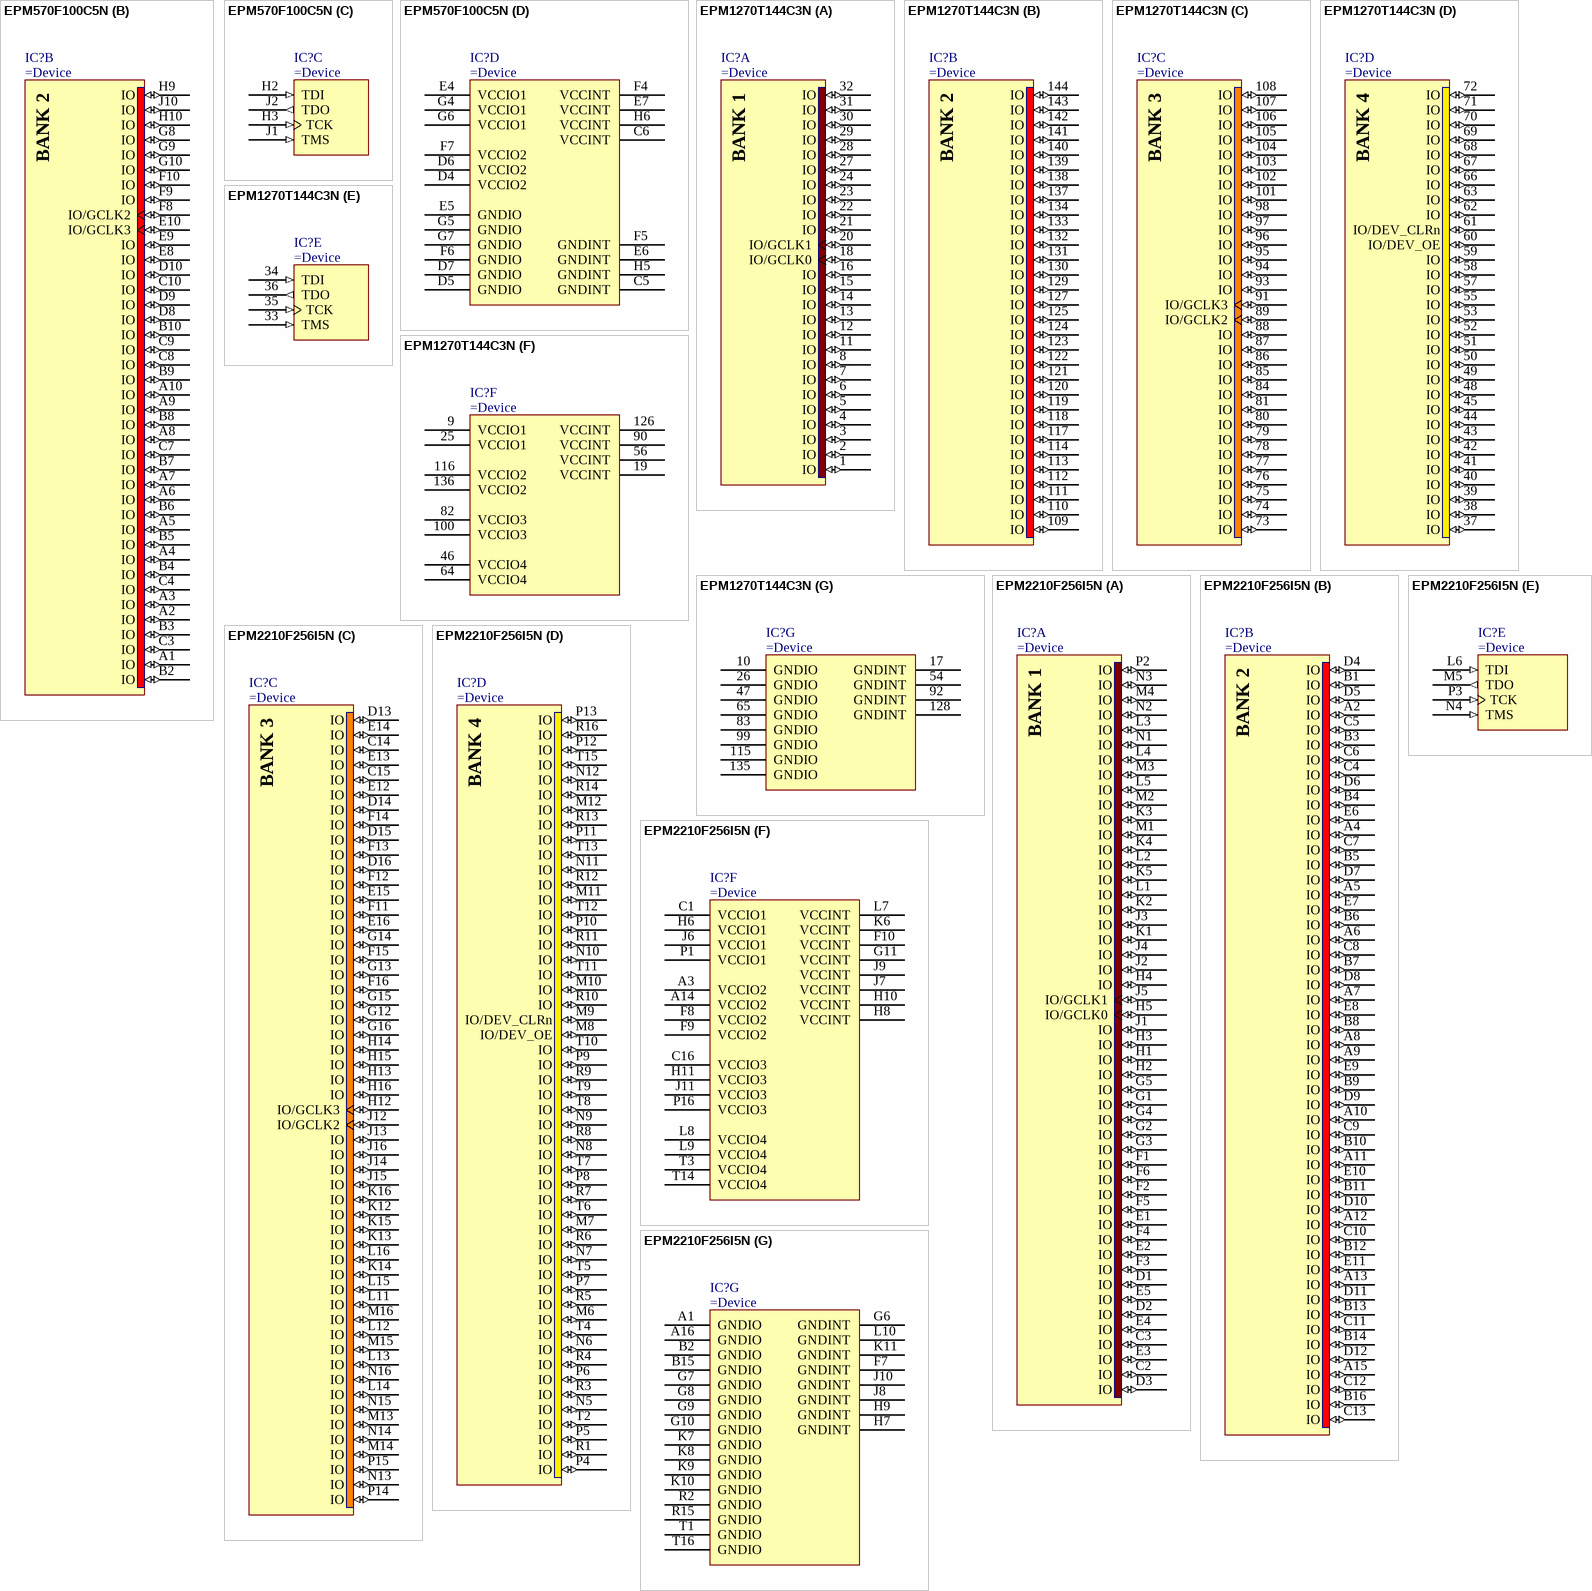
[diagram p70: symbols EPM570F100C5N to EPM2210F256I5N]

## EPM570F100C5N
designator IC?
MAX II 3.3/2.5V CPLD, 76 IOs, 570 Logic Elements, 100-Pin Fineline BGA, Commercial Temperature, Speed Grade 5, Pb-Free
part A pins: B1 IO (io), C1 IO (io), C2 IO (io), D1 IO (io), D2 IO (io), D3 IO (io), E1 IO/GCLK1 (io), E2 IO/GCLK0 (io), E3 IO (io), F1 IO (io), F2 IO (io), F3 IO (io), G1 IO (io), G2 IO (io), G3 IO (io), H1 IO (io), H4 IO (io), H7 IO (io), H8 IO (io), J3 IO (io), J4 IO (io), J5 IO (io), J6 IO (io), J7 IO/DEV_OE (io), J8 IO (io), J9 IO (io), K1 IO (io), K2 IO (io), K3 IO (io), K4 IO (io), K5 IO (io), K6 IO (io), K7 IO (io), K8 IO (io), K9 IO/DEV_CLRn (io), K10 IO (io)
part B pins: A1 IO (io), A2 IO (io), A3 IO (io), A4 IO (io), A5 IO (io), A6 IO (io), A7 IO (io), A8 IO (io), A9 IO (io), A10 IO (io), B2 IO (io), B3 IO (io), B4 IO (io), B5 IO (io), B6 IO (io), B7 IO (io), B8 IO (io), B9 IO (io), B10 IO (io), C3 IO (io), C4 IO (io), C7 IO (io), C8 IO (io), C9 IO (io), C10 IO (io), D8 IO (io), D9 IO (io), D10 IO (io), E8 IO (io), E9 IO (io), E10 IO/GCLK3 (io), F8 IO/GCLK2 (io), F9 IO (io), F10 IO (io), G8 IO (io), G9 IO (io), G10 IO (io), H9 IO (io), H10 IO (io), J10 IO (io)
part C pins: H2 TDI (in), H3 TCK (in), J1 TMS (in), J2 TDO (out)
part D pins: C5 GNDINT (power), C6 VCCINT (power), D4 VCCIO2 (power), D5 GNDIO (power), D6 VCCIO2 (power), D7 GNDIO (power), E4 VCCIO1 (power), E5 GNDIO (power), E6 GNDINT (power), E7 VCCINT (power), F4 VCCINT (power), F5 GNDINT (power), F6 GNDIO (power), F7 VCCIO2 (power), G4 VCCIO1 (power), G5 GNDIO (power), G6 VCCIO1 (power), G7 GNDIO (power), H5 GNDINT (power), H6 VCCINT (power)
part A text: BANK 1
part B text: BANK 2

## EPM1270T144C3N
designator IC?
MAX II 3.3/2.5V CPLD, 116 IOs, 1,270 Logic Elements, 144-Pin Plastic TQFP, Commercial Temperature, Speed Grade 3, Pb-Free
part A pins: 1 IO (io), 2 IO (io), 3 IO (io), 4 IO (io), 5 IO (io), 6 IO (io), 7 IO (io), 8 IO (io), 11 IO (io), 12 IO (io), 13 IO (io), 14 IO (io), 15 IO (io), 16 IO (io), 18 IO/GCLK0 (io), 20 IO/GCLK1 (io), 21 IO (io), 22 IO (io), 23 IO (io), 24 IO (io), 27 IO (io), 28 IO (io), 29 IO (io), 30 IO (io), 31 IO (io), 32 IO (io)
part B pins: 109 IO (io), 110 IO (io), 111 IO (io), 112 IO (io), 113 IO (io), 114 IO (io), 117 IO (io), 118 IO (io), 119 IO (io), 120 IO (io), 121 IO (io), 122 IO (io), 123 IO (io), 124 IO (io), 125 IO (io), 127 IO (io), 129 IO (io), 130 IO (io), 131 IO (io), 132 IO (io), 133 IO (io), 134 IO (io), 137 IO (io), 138 IO (io), 139 IO (io), 140 IO (io), 141 IO (io), 142 IO (io), 143 IO (io), 144 IO (io)
part C pins: 73 IO (io), 74 IO (io), 75 IO (io), 76 IO (io), 77 IO (io), 78 IO (io), 79 IO (io), 80 IO (io), 81 IO (io), 84 IO (io), 85 IO (io), 86 IO (io), 87 IO (io), 88 IO (io), 89 IO/GCLK2 (io), 91 IO/GCLK3 (io), 93 IO (io), 94 IO (io), 95 IO (io), 96 IO (io), 97 IO (io), 98 IO (io), 101 IO (io), 102 IO (io), 103 IO (io), 104 IO (io), 105 IO (io), 106 IO (io), 107 IO (io), 108 IO (io)
part D pins: 37 IO (io), 38 IO (io), 39 IO (io), 40 IO (io), 41 IO (io), 42 IO (io), 43 IO (io), 44 IO (io), 45 IO (io), 48 IO (io), 49 IO (io), 50 IO (io), 51 IO (io), 52 IO (io), 53 IO (io), 55 IO (io), 57 IO (io), 58 IO (io), 59 IO (io), 60 IO/DEV_OE (io), 61 IO/DEV_CLRn (io), 62 IO (io), 63 IO (io), 66 IO (io), 67 IO (io), 68 IO (io), 69 IO (io), 70 IO (io), 71 IO (io), 72 IO (io)
part E pins: 33 TMS (in), 34 TDI (in), 35 TCK (in), 36 TDO (out)
part F pins: 9 VCCIO1 (power), 19 VCCINT (power), 25 VCCIO1 (power), 46 VCCIO4 (power), 56 VCCINT (power), 64 VCCIO4 (power), 82 VCCIO3 (power), 90 VCCINT (power), 100 VCCIO3 (power), 116 VCCIO2 (power), 126 VCCINT (power), 136 VCCIO2 (power)
part G pins: 10 GNDIO (power), 17 GNDINT (power), 26 GNDIO (power), 47 GNDIO (power), 54 GNDINT (power), 65 GNDIO (power), 83 GNDIO (power), 92 GNDINT (power), 99 GNDIO (power), 115 GNDIO (power), 128 GNDINT (power), 135 GNDIO (power)
part A text: BANK 1
part B text: BANK 2
part C text: BANK 3
part D text: BANK 4

## EPM2210F256I5N
designator IC?
MAX II 3.3/2.5V CPLD, 204 IOs, 2,210 Logic Elements, 256-Pin FineLine BGA, Industrial Temperature, Speed Grade 5, Pb-Free
part A pins: C2 IO (io), C3 IO (io), D1 IO (io), D2 IO (io), D3 IO (io), E1 IO (io), E2 IO (io), E3 IO (io), E4 IO (io), E5 IO (io), F1 IO (io), F2 IO (io), F3 IO (io), F4 IO (io), F5 IO (io), F6 IO (io), G1 IO (io), G2 IO (io), G3 IO (io), G4 IO (io), G5 IO (io), H1 IO (io), H2 IO (io), H3 IO (io), H4 IO (io), H5 IO/GCLK0 (io), J1 IO (io), J2 IO (io), J3 IO (io), J4 IO (io), J5 IO/GCLK1 (io), K1 IO (io), K2 IO (io), K3 IO (io), K4 IO (io), K5 IO (io), L1 IO (io), L2 IO (io), L3 IO (io), L4 IO (io), L5 IO (io), M1 IO (io), M2 IO (io), M3 IO (io), M4 IO (io), N1 IO (io), N2 IO (io), N3 IO (io), P2 IO (io)
part B pins: A2 IO (io), A4 IO (io), A5 IO (io), A6 IO (io), A7 IO (io), A8 IO (io), A9 IO (io), A10 IO (io), A11 IO (io), A12 IO (io), A13 IO (io), A15 IO (io), B1 IO (io), B3 IO (io), B4 IO (io), B5 IO (io), B6 IO (io), B7 IO (io), B8 IO (io), B9 IO (io), B10 IO (io), B11 IO (io), B12 IO (io), B13 IO (io), B14 IO (io), B16 IO (io), C4 IO (io), C5 IO (io), C6 IO (io), C7 IO (io), C8 IO (io), C9 IO (io), C10 IO (io), C11 IO (io), C12 IO (io), C13 IO (io), D4 IO (io), D5 IO (io), D6 IO (io), D7 IO (io), D8 IO (io), D9 IO (io), D10 IO (io), D11 IO (io), D12 IO (io), E6 IO (io), E7 IO (io), E8 IO (io), E9 IO (io), E10 IO (io), E11 IO (io)
part C pins: C14 IO (io), C15 IO (io), D13 IO (io), D14 IO (io), D15 IO (io), D16 IO (io), E12 IO (io), E13 IO (io), E14 IO (io), E15 IO (io), E16 IO (io), F11 IO (io), F12 IO (io), F13 IO (io), F14 IO (io), F15 IO (io), F16 IO (io), G12 IO (io), G13 IO (io), G14 IO (io), G15 IO (io), G16 IO (io), H12 IO/GCLK3 (io), H13 IO (io), H14 IO (io), H15 IO (io), H16 IO (io), J12 IO/GCLK2 (io), J13 IO (io), J14 IO (io), J15 IO (io), J16 IO (io), K12 IO (io), K13 IO (io), K14 IO (io), K15 IO (io), K16 IO (io), L11 IO (io), L12 IO (io), L13 IO (io), L14 IO (io), L15 IO (io), L16 IO (io), M13 IO (io), M14 IO (io), M15 IO (io), M16 IO (io), N13 IO (io), N14 IO (io), N15 IO (io), N16 IO (io), P14 IO (io), P15 IO (io)
part D pins: M6 IO (io), M7 IO (io), M8 IO/DEV_OE (io), M9 IO/DEV_CLRn (io), M10 IO (io), M11 IO (io), M12 IO (io), N5 IO (io), N6 IO (io), N7 IO (io), N8 IO (io), N9 IO (io), N10 IO (io), N11 IO (io), N12 IO (io), P4 IO (io), P5 IO (io), P6 IO (io), P7 IO (io), P8 IO (io), P9 IO (io), P10 IO (io), P11 IO (io), P12 IO (io), P13 IO (io), R1 IO (io), R3 IO (io), R4 IO (io), R5 IO (io), R6 IO (io), R7 IO (io), R8 IO (io), R9 IO (io), R10 IO (io), R11 IO (io), R12 IO (io), R13 IO (io), R14 IO (io), R16 IO (io), T2 IO (io), T4 IO (io), T5 IO (io), T6 IO (io), T7 IO (io), T8 IO (io), T9 IO (io), T10 IO (io), T11 IO (io), T12 IO (io), T13 IO (io), T15 IO (io)
part E pins: L6 TDI (in), M5 TDO (out), N4 TMS (in), P3 TCK (in)
part F pins: A3 VCCIO2 (power), A14 VCCIO2 (power), C1 VCCIO1 (power), C16 VCCIO3 (power), F8 VCCIO2 (power), F9 VCCIO2 (power), F10 VCCINT (power), G11 VCCINT (power), H6 VCCIO1 (power), H8 VCCINT (power), H10 VCCINT (power), H11 VCCIO3 (power), J6 VCCIO1 (power), J7 VCCINT (power), J9 VCCINT (power), J11 VCCIO3 (power), K6 VCCINT (power), L7 VCCINT (power), L8 VCCIO4 (power), L9 VCCIO4 (power), P1 VCCIO1 (power), P16 VCCIO3 (power), T3 VCCIO4 (power), T14 VCCIO4 (power)
part G pins: A1 GNDIO (power), A16 GNDIO (power), B2 GNDIO (power), B15 GNDIO (power), F7 GNDINT (power), G6 GNDINT (power), G7 GNDIO (power), G8 GNDIO (power), G9 GNDIO (power), G10 GNDIO (power), H7 GNDINT (power), H9 GNDINT (power), J8 GNDINT (power), J10 GNDINT (power), K7 GNDIO (power), K8 GNDIO (power), K9 GNDIO (power), K10 GNDIO (power), K11 GNDINT (power), L10 GNDINT (power), R2 GNDIO (power), R15 GNDIO (power), T1 GNDIO (power), T16 GNDIO (power)
part A text: BANK 1
part B text: BANK 2
part C text: BANK 3
part D text: BANK 4

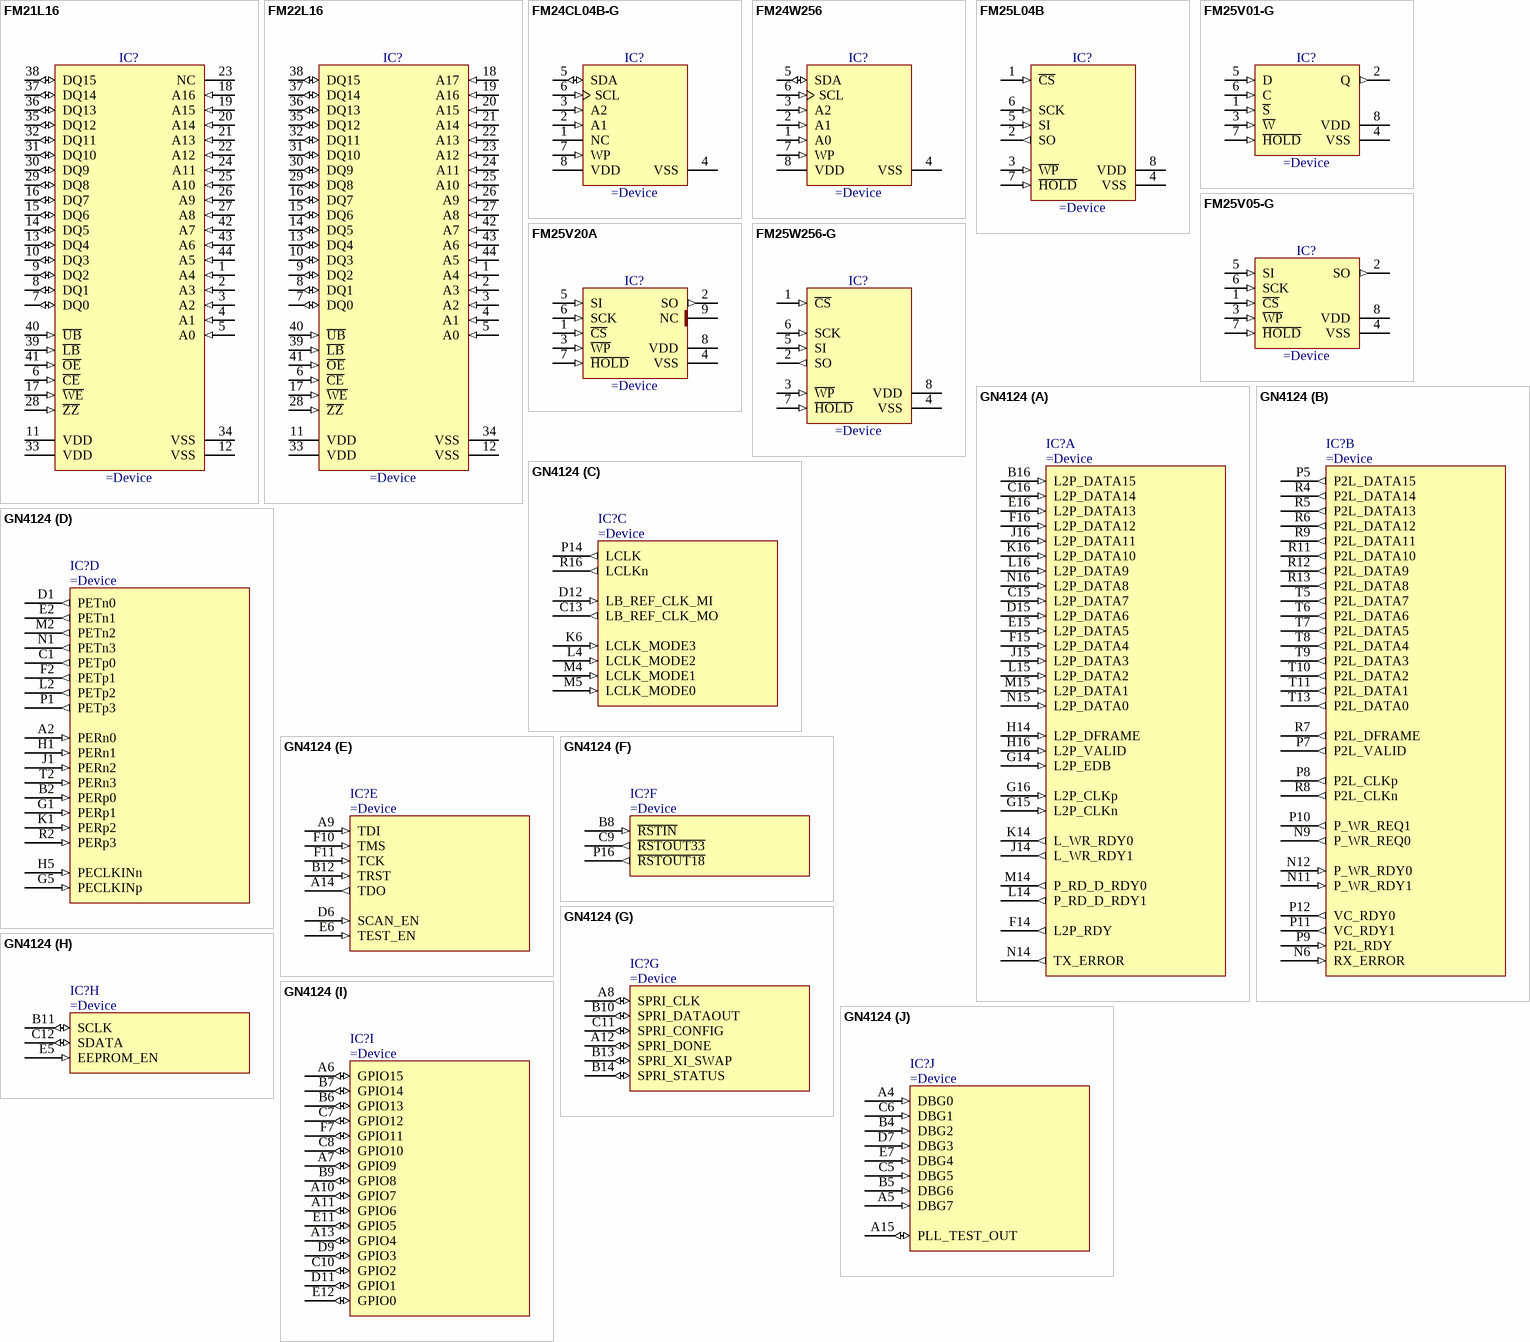
[diagram p71: symbols FM21L16 to GN4124]

## FM21L16
designator IC?
2.7V to 3.6V, 2Mbit (128Kx16), 60ns, Ferroelectric Nonvolatile RAM
pins: 1 A4 (in), 2 A3 (in), 3 A2 (in), 4 A1 (in), 5 A0 (in), 6 ~{CE} (in), 7 DQ0 (io), 8 DQ1 (io), 9 DQ2 (io), 10 DQ3 (io), 11 VDD (power), 12 VSS (power), 13 DQ4 (io), 14 DQ5 (io), 15 DQ6 (io), 16 DQ7 (io), 17 ~{WE} (in), 18 A16 (in), 19 A15 (in), 20 A14 (in), 21 A13 (in), 22 A12 (in), 23 NC, 24 A11 (in), 25 A10 (in), 26 A9 (in), 27 A8 (in), 28 ~{ZZ} (in), 29 DQ8 (io), 30 DQ9 (io), 31 DQ10 (io), 32 DQ11 (io), 33 VDD (power), 34 VSS (power), 35 DQ12 (io), 36 DQ13 (io), 37 DQ14 (io), 38 DQ15 (io), 39 ~{LB} (in), 40 ~{UB} (in), 41 ~{OE} (in), 42 A7 (in), 43 A6 (in), 44 A5 (in)

## FM22L16
designator IC?
2.7V to 3.6V, 4Mbit (256Kx16), 55ns, Ferroelectric Nonvolatile RAM
pins: 1 A4 (in), 2 A3 (in), 3 A2 (in), 4 A1 (in), 5 A0 (in), 6 ~{CE} (in), 7 DQ0 (io), 8 DQ1 (io), 9 DQ2 (io), 10 DQ3 (io), 11 VDD (power), 12 VSS (power), 13 DQ4 (io), 14 DQ5 (io), 15 DQ6 (io), 16 DQ7 (io), 17 ~{WE} (in), 18 A17 (in), 19 A16 (in), 20 A15 (in), 21 A14 (in), 22 A13 (in), 23 A12 (in), 24 A11 (in), 25 A10 (in), 26 A9 (in), 27 A8 (in), 28 ~{ZZ} (in), 29 DQ8 (io), 30 DQ9 (io), 31 DQ10 (io), 32 DQ11 (io), 33 VDD (power), 34 VSS (power), 35 DQ12 (io), 36 DQ13 (io), 37 DQ14 (io), 38 DQ15 (io), 39 ~{LB} (in), 40 ~{UB} (in), 41 ~{OE} (in), 42 A7 (in), 43 A6 (in), 44 A5 (in)

## FM24CL04B-G
designator IC?
4Kb Serial 3V F-RAM Memory
pins: 1 NC, 2 A1 (in), 3 A2 (in), 4 VSS (power), 5 SDA (io), 6 SCL (in), 7 WP (in), 8 VDD (power)

## FM24W256
designator IC?
256-Kbit (32k x 8) Serial (I2C) F-RAM
pins: 1 A0 (in), 2 A1 (in), 3 A2 (in), 4 VSS (power), 5 SDA (io), 6 SCL (in), 7 WP (in), 8 VDD (power)

## FM25L04B
designator IC?
4Kb (512 x 8 Bits) Serial 3V F-RAM Memory
pins: 1 ~{CS} (in), 2 SO (out), 3 ~{WP} (in), 4 VSS (power), 5 SI (in), 6 SCK (in), 7 ~{HOLD} (in), 8 VDD (power)

## FM25V01-G
designator IC?
128Kb Serial 3V F-RAM Memory
pins: 1 ~{S} (in), 2 Q (out), 3 ~{W} (in), 4 VSS (power), 5 D (in), 6 C (in), 7 ~{HOLD} (in), 8 VDD (power)

## FM25V05-G
designator IC?
512Kb Serial 3V F-RAM Memory
pins: 1 ~{CS} (in), 2 SO (out), 3 ~{WP} (in), 4 VSS (power), 5 SI (in), 6 SCK (in), 7 ~{HOLD} (in), 8 VDD (power)

## FM25V20A
designator IC?
4Mb Serial 3V F-RAM Memory
pins: 1 ~{CS} (in), 2 SO (out), 3 ~{WP} (in), 4 VSS (power), 5 SI (in), 6 SCK (in), 7 ~{HOLD} (in), 8 VDD (power), 9 NC (power) "Thermal Pad may be connected to GND or left floating (NC)"

## FM25W256-G
designator IC?
256Kb (32k x 8) Serial SPI F-RAM Memory
pins: 1 ~{CS} (in), 2 SO (out), 3 ~{WP} (in), 4 VSS (power), 5 SI (in), 6 SCK (in), 7 ~{HOLD} (in), 8 VDD (power)

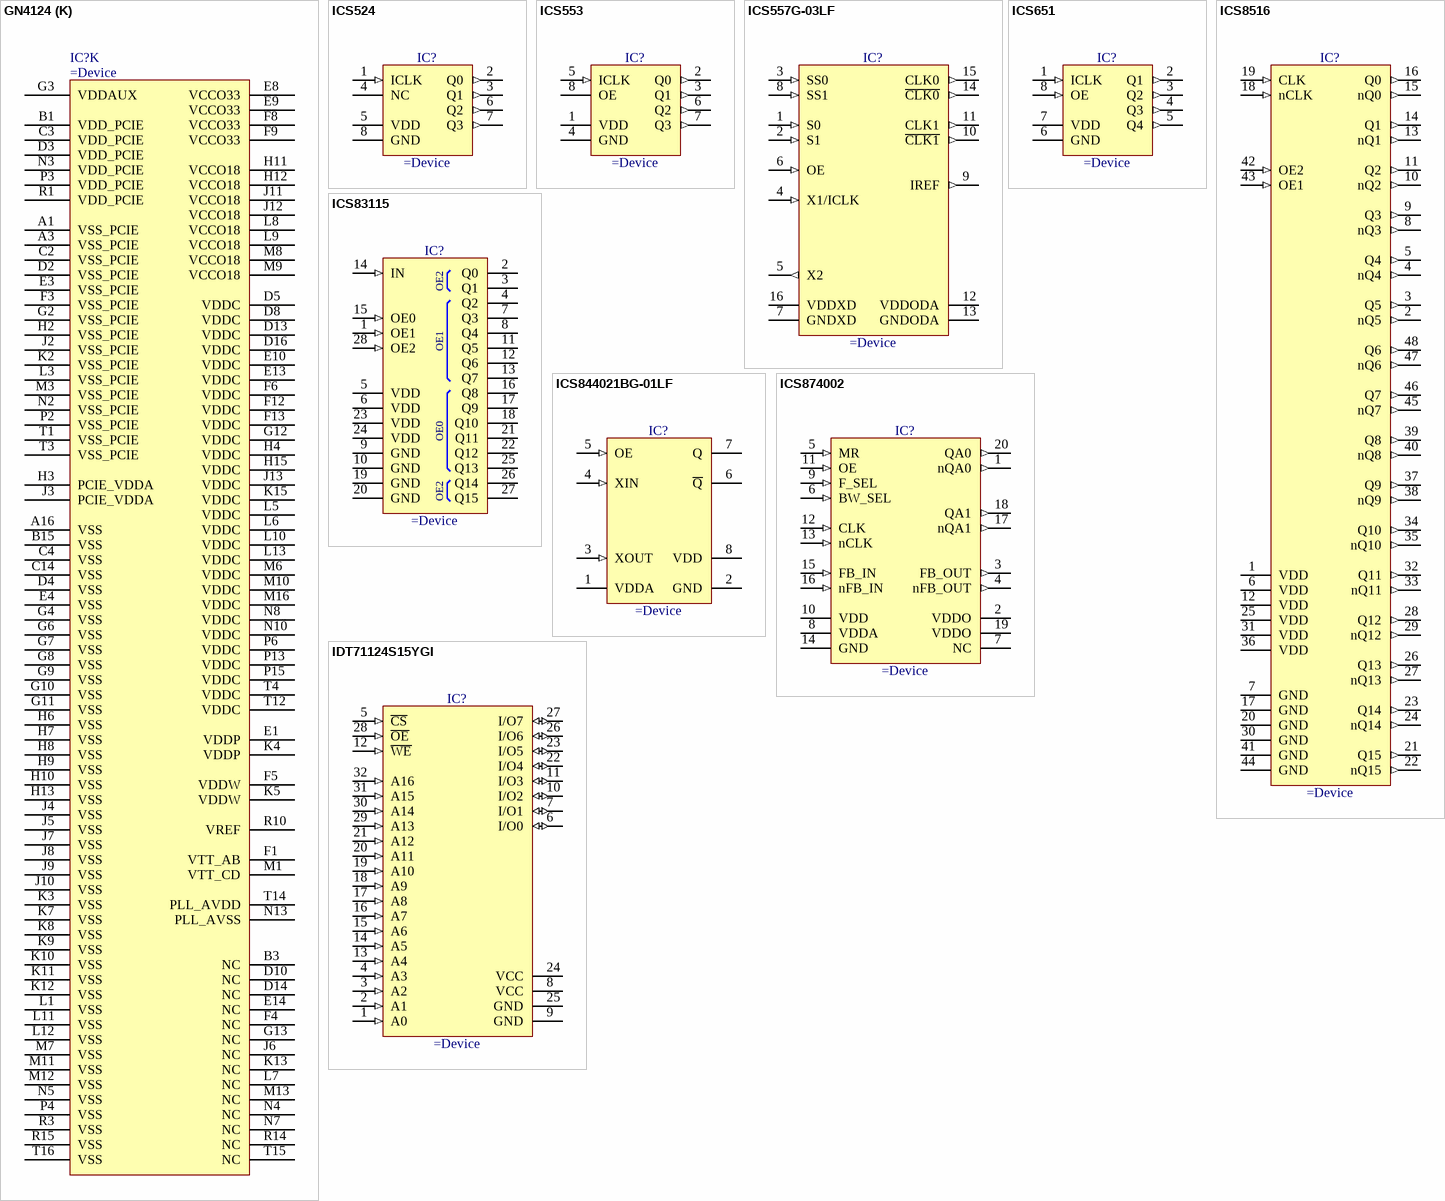
[diagram p72: symbols GN4124 to IDT71124S15YGI]

## GN4124
designator IC?
x4 Lane PCI Express to Local Bridge
part A pins: B16 L2P_DATA15 (in), C15 L2P_DATA7 (in), C16 L2P_DATA14 (in), D15 L2P_DATA6 (in), E15 L2P_DATA5 (in), E16 L2P_DATA13 (in), F14 L2P_RDY (out), F15 L2P_DATA4 (in), F16 L2P_DATA12 (in), G14 L2P_EDB (in), G15 L2P_CLKn (in), G16 L2P_CLKp (in), H14 L2P_DFRAME (in), H16 L2P_VALID (in), J14 L_WR_RDY1 (out), J15 L2P_DATA3 (in), J16 L2P_DATA11 (in), K14 L_WR_RDY0 (out), K16 L2P_DATA10 (in), L14 P_RD_D_RDY1 (out), L15 L2P_DATA2 (in), L16 L2P_DATA9 (in), M14 P_RD_D_RDY0 (out), M15 L2P_DATA1 (in), N14 TX_ERROR (out), N15 L2P_DATA0 (in), N16 L2P_DATA8 (in)
part B pins: N6 RX_ERROR (in), N9 P_WR_REQ0 (out), N11 P_WR_RDY1 (in), N12 P_WR_RDY0 (in), P5 P2L_DATA15 (out), P7 P2L_VALID (out), P8 P2L_CLKp (out), P9 P2L_RDY (in), P10 P_WR_REQ1 (out), P11 VC_RDY1 (out), P12 VC_RDY0 (out), R4 P2L_DATA14 (out), R5 P2L_DATA13 (out), R6 P2L_DATA12 (out), R7 P2L_DFRAME (out), R8 P2L_CLKn (out), R9 P2L_DATA11 (out), R11 P2L_DATA10 (out), R12 P2L_DATA9 (out), R13 P2L_DATA8 (out), T5 P2L_DATA7 (out), T6 P2L_DATA6 (out), T7 P2L_DATA5 (out), T8 P2L_DATA4 (out), T9 P2L_DATA3 (out), T10 P2L_DATA2 (out), T11 P2L_DATA1 (out), T13 P2L_DATA0 (out)
part C pins: C13 LB_REF_CLK_MO (out), D12 LB_REF_CLK_MI (in), K6 LCLK_MODE3 (in), L4 LCLK_MODE2 (in), M4 LCLK_MODE1 (in), M5 LCLK_MODE0 (in), P14 LCLK (out), R16 LCLKn (out)
part D pins: A2 PERn0 (in), B2 PERp0 (in), C1 PETp0 (out), D1 PETn0 (out), E2 PETn1 (out), F2 PETp1 (out), G1 PERp1 (in), G5 PECLKINp (in), H1 PERn1 (in), H5 PECLKINn (in), J1 PERn2 (in), K1 PERp2 (in), L2 PETp2 (out), M2 PETn2 (out), N1 PETn3 (out), P1 PETp3 (out), R2 PERp3 (in), T2 PERn3 (in)
part E pins: A9 TDI (in), A14 TDO (out), B12 TRST (in), D6 SCAN_EN (in), E6 TEST_EN (in), F10 TMS (in), F11 TCK (in)
part F pins: B8 ~{RSTIN} (in), C9 ~{RSTOUT33} (out), P16 ~{RSTOUT18} (out)
part G pins: A8 SPRI_CLK (io), A12 SPRI_DONE (io), B10 SPRI_DATAOUT (io), B13 SPRI_XI_SWAP (io), B14 SPRI_STATUS (io), C11 SPRI_CONFIG (io)
part H pins: B11 SCLK (io), C12 SDATA (io), E5 EEPROM_EN (in)
part I pins: A6 GPIO15 (io), A7 GPIO9 (io), A10 GPIO7 (io), A11 GPIO6 (io), A13 GPIO4 (io), B6 GPIO13 (io), B7 GPIO14 (io), B9 GPIO8 (io), C7 GPIO12 (io), C8 GPIO10 (io), C10 GPIO2 (io), D9 GPIO3 (io), D11 GPIO1 (io), E11 GPIO5 (io), E12 GPIO0 (io), F7 GPIO11 (io)
part J pins: A4 DBG0 (in), A5 DBG7 (in), A15 PLL_TEST_OUT (io), B4 DBG2 (in), B5 DBG6 (in), C5 DBG5 (in), C6 DBG1 (in), D7 DBG3 (in), E7 DBG4 (in)
part K pins: A1 VSS_PCIE (power), A3 VSS_PCIE (power), A16 VSS (power), B1 VDD_PCIE (power), B3 NC, B15 VSS (power), C2 VSS_PCIE (power), C3 VDD_PCIE (power), C4 VSS (power), C14 VSS (power), D2 VSS_PCIE (power), D3 VDD_PCIE (power), D4 VSS (power), D5 VDDC (power), D8 VDDC (power), D10 NC, D13 VDDC (power), D14 NC, D16 VDDC (power), E1 VDDP (power), E3 VSS_PCIE (power), E4 VSS (power), E8 VCCO33 (power), E9 VCCO33 (power), E10 VDDC (power), E13 VDDC (power), E14 NC, F1 VTT_AB (power), F3 VSS_PCIE (power), F4 NC, F5 VDDW (power), F6 VDDC (power), F8 VCCO33 (power), F9 VCCO33 (power), F12 VDDC (power), F13 VDDC (power), G2 VSS_PCIE (power), G3 VDDAUX (power), G4 VSS (power), G6 VSS (power), G7 VSS (power), G8 VSS (power), G9 VSS (power), G10 VSS (power), G11 VSS (power), G12 VDDC (power), G13 NC, H2 VSS_PCIE (power), H3 PCIE_VDDA (power), H4 VDDC (power), H6 VSS (power), H7 VSS (power), H8 VSS (power), H9 VSS (power), H10 VSS (power), H11 VCCO18 (power), H12 VCCO18 (power), H13 VSS (power), H15 VDDC (power), J2 VSS_PCIE (power), J3 PCIE_VDDA (power), J4 VSS (power), J5 VSS (power), J6 NC, J7 VSS (power), J8 VSS (power), J9 VSS (power), J10 VSS (power), J11 VCCO18 (power), J12 VCCO18 (power), J13 VDDC (power), K2 VSS_PCIE (power), K3 VSS (power), K4 VDDP (power), K5 VDDW (power), K7 VSS (power), K8 VSS (power), K9 VSS (power), K10 VSS (power), K11 VSS (power), K12 VSS (power), K13 NC, K15 VDDC (power), L1 VSS (power), L3 VSS_PCIE (power), L5 VDDC (power), L6 VDDC (power), L7 NC, L8 VCCO18 (power), L9 VCCO18 (power), L10 VDDC (power), L11 VSS (power), L12 VSS (power), L13 VDDC (power), M1 VTT_CD (power), M3 VSS_PCIE (power), M6 VDDC (power), M7 VSS (power), M8 VCCO18 (power), M9 VCCO18 (power), M10 VDDC (power), M11 VSS (power), M12 VSS (power), M13 NC, M16 VDDC (power), N2 VSS_PCIE (power), N3 VDD_PCIE (power), N4 NC, N5 VSS (power), N7 NC, N8 VDDC (power), N10 VDDC (power), N13 PLL_AVSS (power), P2 VSS_PCIE (power), P3 VDD_PCIE (power), P4 VSS (power), P6 VDDC (power), P13 VDDC (power), P15 VDDC (power), R1 VDD_PCIE (power), R3 VSS (power), R10 VREF (power), R14 NC, R15 VSS (power), T1 VSS_PCIE (power), T3 VSS_PCIE (power), T4 VDDC (power), T12 VDDC (power), T14 PLL_AVDD (power), T15 NC, T16 VSS (power)

## ICS524
designator IC?
Low Skew 1 to 4 Clock Buffer
pins: 1 ICLK (in), 2 Q0 (out), 3 Q1 (out), 4 NC, 5 VDD (power), 6 Q2 (out), 7 Q3 (out), 8 GND (power)

## ICS553
designator IC?
Low Skew 1 to 4 Clock Buffer
pins: 1 VDD (power), 2 Q0 (out), 3 Q1 (out), 4 GND (power), 5 ICLK (in), 6 Q2 (out), 7 Q3 (out), 8 OE

## ICS557G-03LF
designator IC?
2 Output PCI-Express Gen 1 Clock Source
pins: 1 S0 (in), 2 S1 (in), 3 SS0 (in), 4 X1/ICLK (in), 5 X2 (out), 6 OE (in), 7 GNDXD (power), 8 SS1 (in), 9 IREF (out), 10 ~{CLK1} (out), 11 CLK1 (out), 12 VDDODA (power), 13 GNDODA (power), 14 ~{CLK0} (out), 15 CLK0 (out), 16 VDDXD (power)

## ICS651
designator IC?
Low Skew 1 to 4 Clock Buffer
pins: 1 ICLK (in), 2 Q1 (out), 3 Q2 (out), 4 Q3 (out), 5 Q4 (out), 6 GND (power), 7 VDD (power), 8 OE (in)

## ICS8516
designator IC?
Low Skew, 1-to-16 Differential-to-LVDS Clock Distribution Chip
pins: 1 VDD (power), 2 nQ5 (out), 3 Q5 (out), 4 nQ4 (out), 5 Q4 (out), 6 VDD (power), 7 GND (power), 8 nQ3 (out), 9 Q3 (out), 10 nQ2 (out), 11 Q2 (out), 12 VDD (power), 13 nQ1 (out), 14 Q1 (out), 15 nQ0 (out), 16 Q0 (out), 17 GND (power), 18 nCLK (in), 19 CLK (in), 20 GND (power), 21 Q15 (out), 22 nQ15 (out), 23 Q14 (out), 24 nQ14 (out), 25 VDD (power), 26 Q13 (out), 27 nQ13 (out), 28 Q12 (out), 29 nQ12 (out), 30 GND (power), 31 VDD (power), 32 Q11 (out), 33 nQ11 (out), 34 Q10 (out), 35 nQ10 (out), 36 VDD (power), 37 Q9 (out), 38 nQ9 (out), 39 Q8 (out), 40 nQ8 (out), 41 GND (power), 42 OE2 (in), 43 OE1 (in), 44 GND (power), 45 nQ7 (out), 46 Q7 (out), 47 nQ6 (out), 48 Q6 (out)

## ICS83115
designator IC?
Low Skew, 1-To-16 LVCMOS/LVTTL Fanout Buffer
pins: 1 OE1 (in), 2 Q0 (hiz), 3 Q1 (hiz), 4 Q2 (hiz), 5 VDD (power), 6 VDD (power), 7 Q3 (hiz), 8 Q4 (hiz), 9 GND (power), 10 GND (power), 11 Q5 (hiz), 12 Q6 (hiz), 13 Q7 (hiz), 14 IN (in), 15 OE0 (in), 16 Q8 (hiz), 17 Q9 (hiz), 18 Q10 (hiz), 19 GND (power), 20 GND (power), 21 Q11 (hiz), 22 Q12 (hiz), 23 VDD (power), 24 VDD (power), 25 Q13 (hiz), 26 Q14 (hiz), 27 Q15 (hiz), 28 OE2 (in)

## ICS844021BG-01LF
designator IC?
FEMTOCLOCKS Crystal-To-LVDS Ethernet Clock Generator
pins: 1 VDDA (power), 2 GND (power), 3 XOUT (in), 4 XIN (in), 5 OE (in), 6 ~{Q} (hiz), 7 Q (hiz), 8 VDD (power)

## ICS874002
designator IC?
PCI EXPRESS/Jitter Attenuator
pins: 1 nQA0 (out), 2 VDDO (power), 3 FB_OUT (out), 4 nFB_OUT (out), 5 MR (in), 6 BW_SEL (in), 7 NC, 8 VDDA (power), 9 F_SEL (in), 10 VDD (power), 11 OE (in), 12 CLK (in), 13 nCLK (in), 14 GND (power), 15 FB_IN (in), 16 nFB_IN (in), 17 nQA1 (out), 18 QA1 (out), 19 VDDO (power), 20 QA0 (out)

## IDT71124S15YGI
designator IC?
5V, 1Meg (128K x 8-Bit) CMOS Static RAM
pins: 1 A0 (in), 2 A1 (in), 3 A2 (in), 4 A3 (in), 5 ~{CS} (in), 6 I/O0 (io), 7 I/O1 (io), 8 VCC (power), 9 GND (power), 10 I/O2 (io), 11 I/O3 (io), 12 ~{WE} (in), 13 A4 (in), 14 A5 (in), 15 A6 (in), 16 A7 (in), 17 A8 (in), 18 A9 (in), 19 A10 (in), 20 A11 (in), 21 A12 (in), 22 I/O4 (io), 23 I/O5 (io), 24 VCC (power), 25 GND (power), 26 I/O6 (io), 27 I/O7 (io), 28 ~{OE} (in), 29 A13 (in), 30 A14 (in), 31 A15 (in), 32 A16 (in)

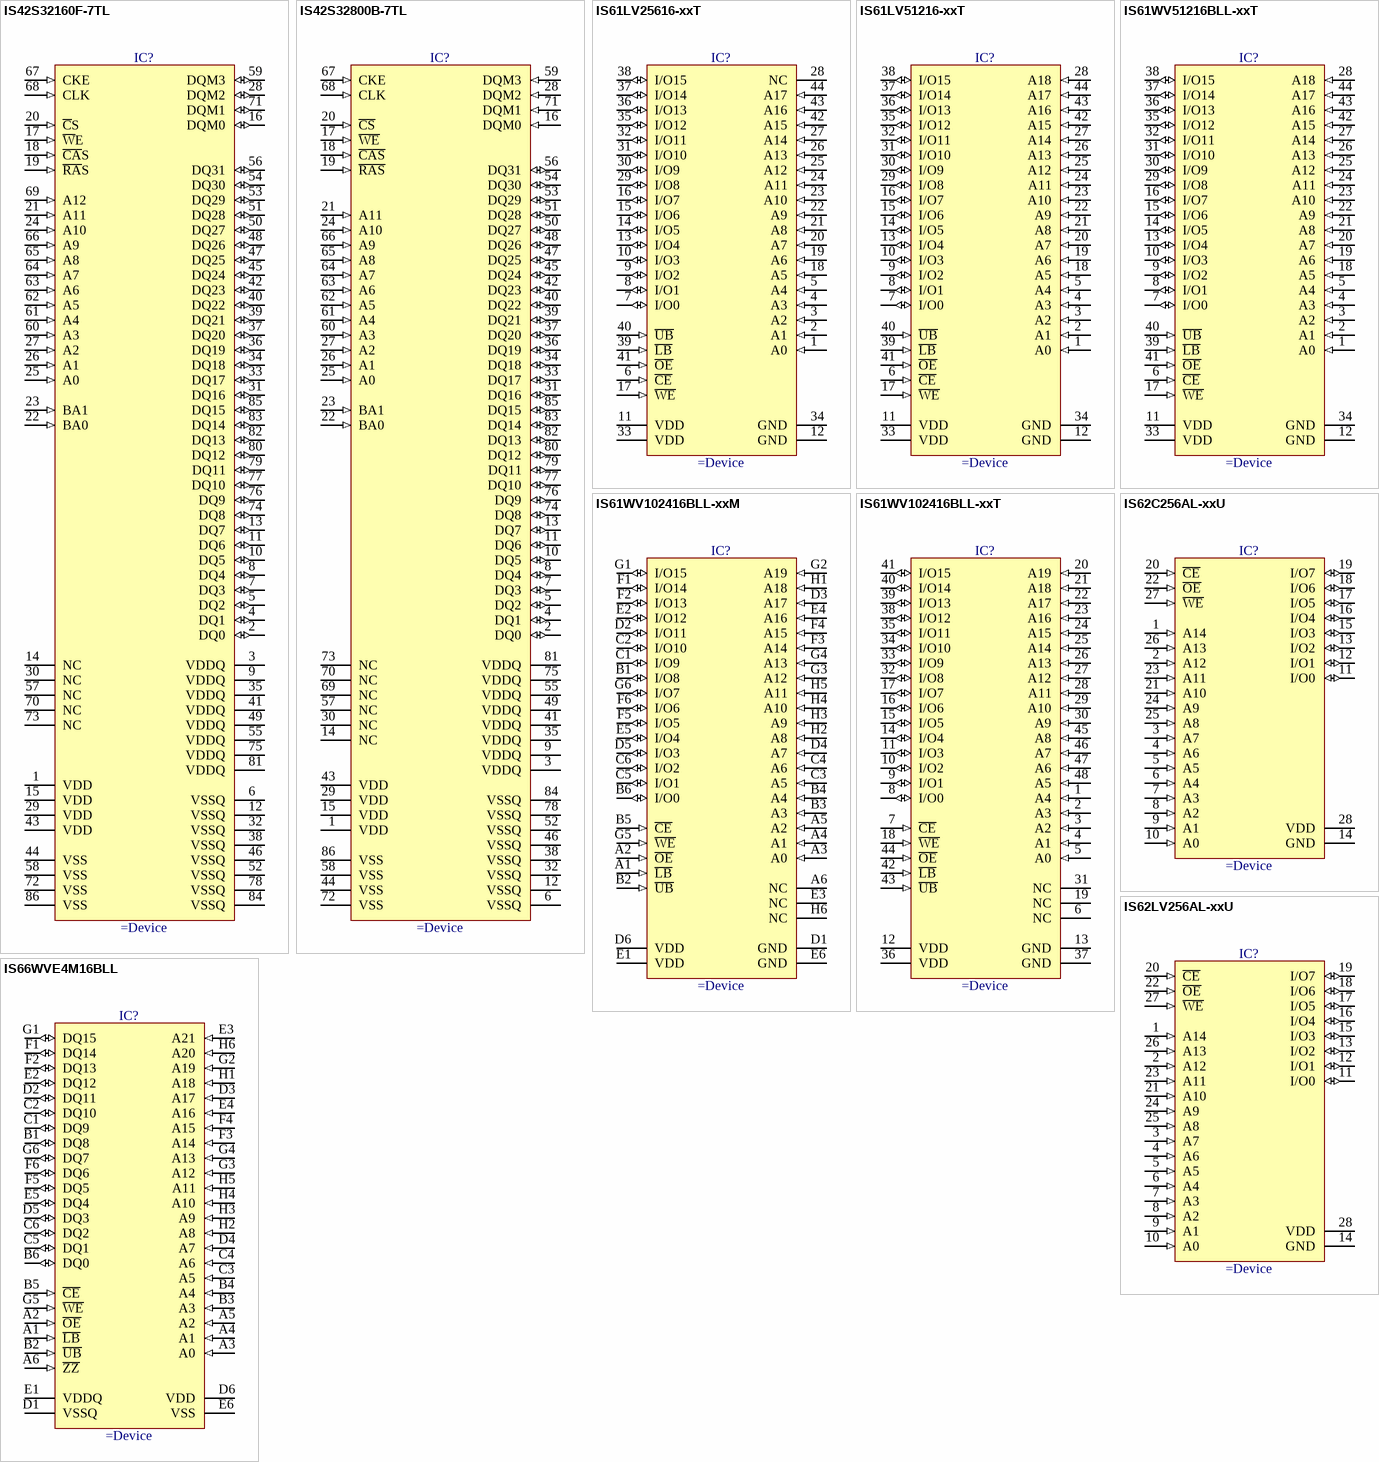
[diagram p73: symbols IS42S32160F-7TL to IS66WVE4M16BLL]

## IS42S32160F-7TL
designator IC?
3.3V, 16M x 32, 512Mb Synchronous Dynamic RAM (SDRAM)
pins: 1 VDD (power) "Power", 2 DQ0 (io) "Data I/O", 3 VDDQ (power) "Power Supply for I/O Pin", 4 DQ1 (io) "Data I/O", 5 DQ2 (io) "Data I/O", 6 VSSQ (power) "Ground for I/O Pin", 7 DQ3 (io) "Data I/O", 8 DQ4 (io) "Data I/O", 9 VDDQ (power) "Power Supply for I/O Pin", 10 DQ5 (io) "Data I/O", 11 DQ6 (io) "Data I/O", 12 VSSQ (power) "Ground for I/O Pin", 13 DQ7 (io) "Data I/O", 14 NC "No Connection", 15 VDD (power) "Power", 16 DQM0 (io) "x32 Input/Output Mask", 17 ~{W}E (in) "Write Enable", 18 ~{CA}S (in) "Column Address Strobe Command", 19 ~{RA}S (in) "Row Address Strobe Command", 20 ~{C}S (in) "Chip Select", 21 A11 (in) "Address Input", 22 BA0 (in) "Bank Select Address", 23 BA1 (in) "Bank Select Address", 24 A10 (in) "Address Input", 25 A0 (in) "Address Input", 26 A1 (in) "Address Input", 27 A2 (in) "Address Input", 28 DQM2 (io) "x32 Input/Output Mask", 29 VDD (power) "Power", 30 NC "No Connection", 31 DQ16 (io) "Data I/O", 32 VSSQ (power) "Ground for I/O Pin", 33 DQ17 (io) "Data I/O", 34 DQ18 (io) "Data I/O", 35 VDDQ (power) "Power Supply for I/O Pin", 36 DQ19 (io) "Data I/O", 37 DQ20 (io) "Data I/O", 38 VSSQ (power) "Ground for I/O Pin", 39 DQ21 (io) "Data I/O", 40 DQ22 (io) "Data I/O", 41 VDDQ (power) "Power Supply for I/O Pin", 42 DQ23 (io) "Data I/O", 43 VDD (power) "Power", 44 VSS (power) "Ground", 45 DQ24 (io) "Data I/O", 46 VSSQ (power) "Ground for I/O Pin", 47 DQ25 (io) "Data I/O", 48 DQ26 (io) "Data I/O", 49 VDDQ (power) "Power Supply for I/O Pin", 50 DQ27 (io) "Data I/O", 51 DQ28 (io) "Data I/O", 52 VSSQ (power) "Ground for I/O Pin", 53 DQ29 (io) "Data I/O", 54 DQ30 (io) "Data I/O", 55 VDDQ (power) "Power Supply for I/O Pin", 56 DQ31 (io) "Data I/O", 57 NC "No Connection", 58 VSS (power) "Ground", 59 DQM3 (io) "x32 Input/Output Mask", 60 A3 (in) "Address Input", 61 A4 (in) "Address Input", 62 A5 (in) "Address Input", 63 A6 (in) "Address Input", 64 A7 (in) "Address Input", 65 A8 (in) "Address Input", 66 A9 (in) "Address Input", 67 CKE (in) "Clock Enable", 68 CLK (in) "System Clock Input", 69 A12 (in) "Address Input", 70 NC "No Connection", 71 DQM1 (io) "x32 Input/Output Mask", 72 VSS (power) "Ground", 73 NC "No Connection", 74 DQ8 (io) "Data I/O", 75 VDDQ (power) "Power Supply for I/O Pin", 76 DQ9 (io) "Data I/O", 77 DQ10 (io) "Data I/O", 78 VSSQ (power) "Ground for I/O Pin", 79 DQ11 (io) "Data I/O", 80 DQ12 (io) "Data I/O", 81 VDDQ (power) "Power Supply for I/O Pin", 82 DQ13 (io) "Data I/O", 83 DQ14 (io) "Data I/O", 84 VSSQ (power) "Ground for I/O Pin", 85 DQ15 (io) "Data I/O", 86 VSS (power) "Ground"